# Altium integrated library Actel Axcelerator.IntLib: 162 symbols (part 26 of 43)
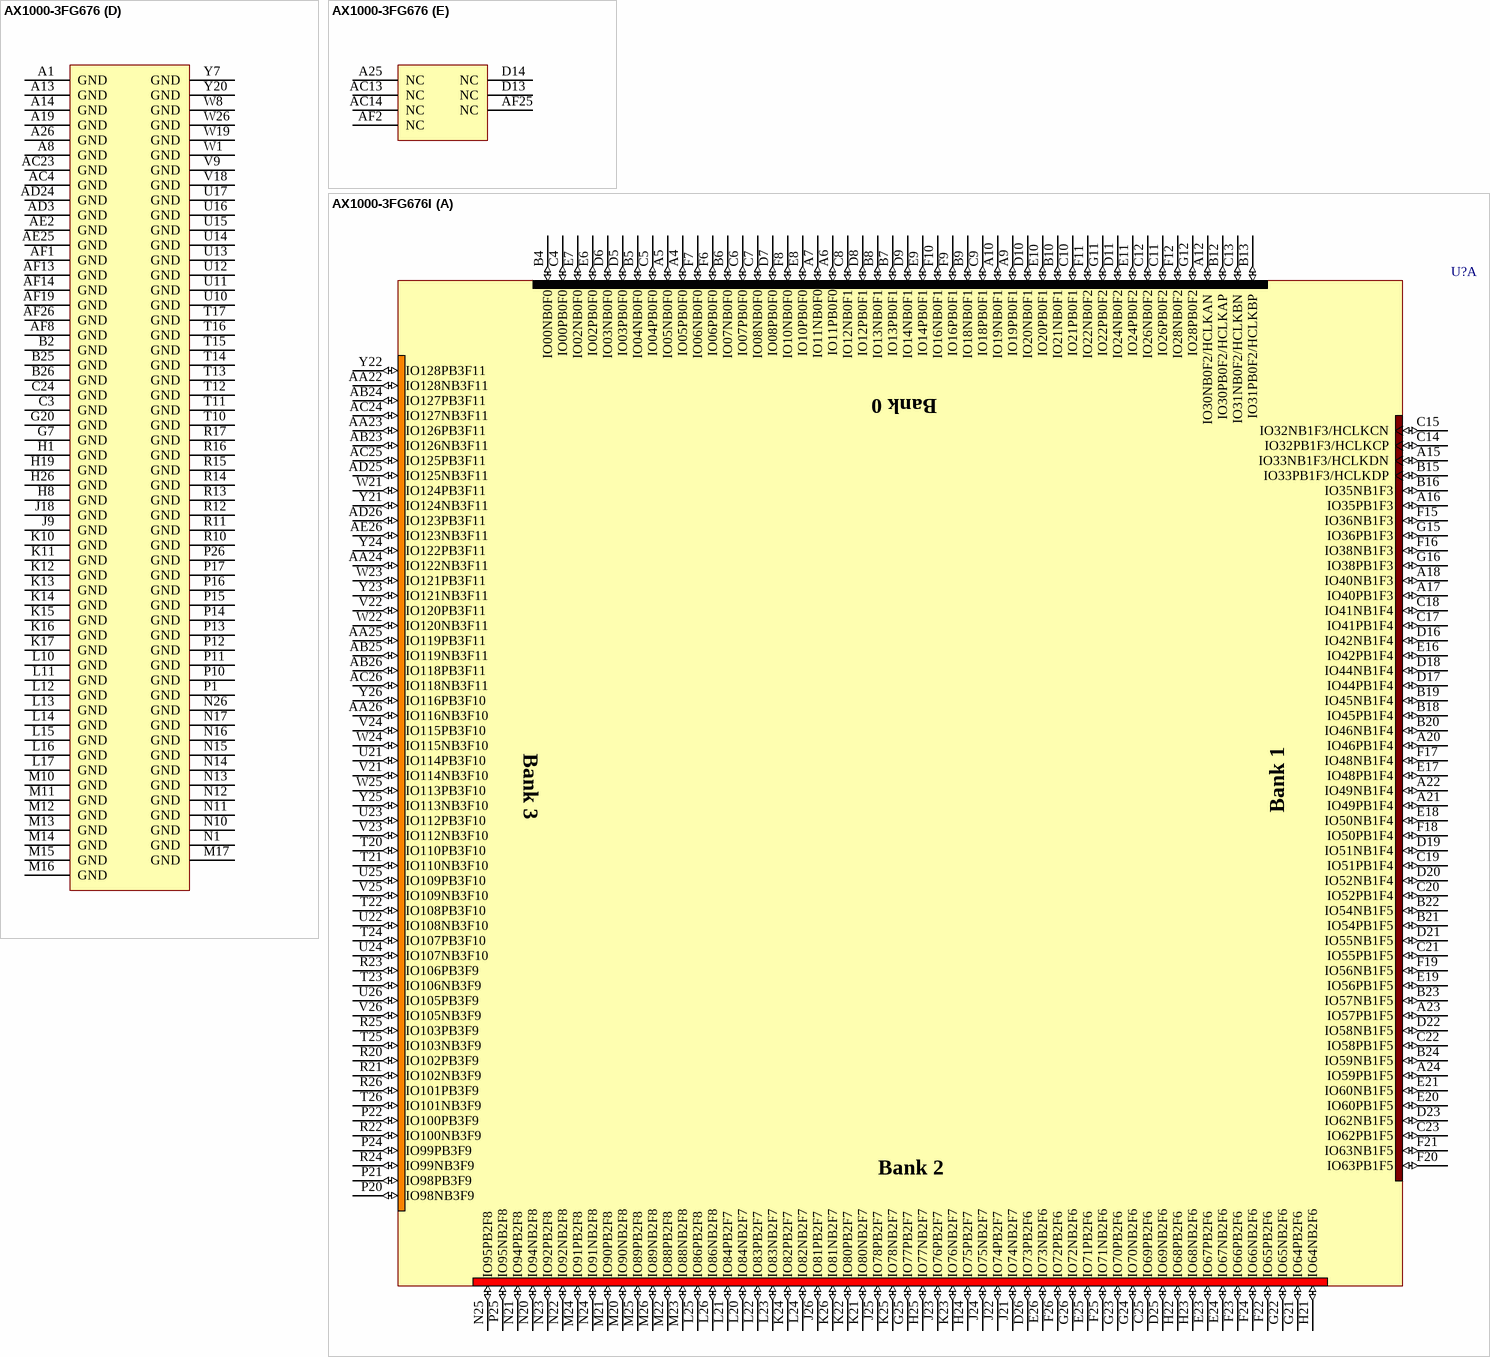
[diagram p424: symbols AX1000-3FG676 to AX1000-3FG676I]

## AX1000-3FG676
designator U?
Axcelerator AX1000 FPGA, 418 I/Os, 676-Pin FBGA, Speed Grade 3, Commercial Grade; ComponentAvailability: -3 speed grade removed in v2.3 datasheet.; Published: 21-May-2003; LatestRevisionDate: 13-Apr-2006; LatestRevisionNote: IPC-7351 Footprint Added.; DatasheetVersion: v2.4, Jan-2005; PackageVersion: ver11.2, Nov-2009; PackageReference: FG676; Publisher: Altium Limited; PackageDescription: 676-Ball Fine Pitch Plastic Ball Grid Array (FG676); Code_JEDEC: MS-034-AAL-1; Code_IPC: BGA100P26X26-676; ComponentLink1Description: Axcelerator Datasheet; ComponentLink1URL: http://www.actel.com/documents/AX_DS.pdf; ComponentLink2Description: Package Mechanical Drawings; ComponentLink2URL: http://www.actel.com/documents/PckgMechDrwngs.pdf; ComponentLink3Description: Axcelerator Documents; ComponentLink3URL: http://www.actel.com/products/axcelerator/docs.aspx; ComponentLink4Description: Actel.com Home; ComponentLink4URL: http://www.actel.com/
footprint FG676 (BGA, 676-Leads, Body 27x27mm, Pitch 1mm)
part A pins: A4 IO05PB0F0 (io), A5 IO05NB0F0 (io), A6 IO11PB0F0 (io), A7 IO11NB0F0 (io), A9 IO19PB0F1 (io), A10 IO19NB0F1 (io), A12 IO30NB0F2/HCLKAN (io), A15 IO33NB1F3/HCLKDN (io), A16 IO35PB1F3 (io), A17 IO40PB1F3 (io), A18 IO40NB1F3 (io), A20 IO46PB1F4 (io), A21 IO49PB1F4 (io), A22 IO49NB1F4 (io), A23 IO57PB1F5 (io), A24 IO59PB1F5 (io), AA22 IO128NB3F11 (io), AA23 IO126PB3F11 (io), AA24 IO122NB3F11 (io), AA25 IO119PB3F11 (io), AA26 IO116NB3F10 (io), AB23 IO126NB3F11 (io), AB24 IO127PB3F11 (io), AB25 IO119NB3F11 (io), AB26 IO118PB3F11 (io), AC24 IO127NB3F11 (io), AC25 IO125PB3F11 (io), AC26 IO118NB3F11 (io), AD25 IO125NB3F11 (io), AD26 IO123PB3F11 (io), AE26 IO123NB3F11 (io), B4 IO00NB0F0 (io), B5 IO04NB0F0 (io), B6 IO07NB0F0 (io), B7 IO13PB0F1 (io), B8 IO13NB0F1 (io), B9 IO18NB0F1 (io), B10 IO21NB0F1 (io), B12 IO30PB0F2/HCLKAP (io), B13 IO31PB0F2/HCLKBP (io), B15 IO33PB1F3/HCLKDP (io), B16 IO35NB1F3 (io), B18 IO45PB1F4 (io), B19 IO45NB1F4 (io), B20 IO46NB1F4 (io), B21 IO54PB1F5 (io), B22 IO54NB1F5 (io), B23 IO57NB1F5 (io), B24 IO59NB1F5 (io), C4 IO00PB0F0 (io), C5 IO04PB0F0 (io), C6 IO07PB0F0 (io), C7 IO08NB0F0 (io), C8 IO12NB0F1 (io), C9 IO18PB0F1 (io), C10 IO21PB0F1 (io), C11 IO26PB0F2 (io), C12 IO26NB0F2 (io), C13 IO31NB0F2/HCLKBN (io), C14 IO32PB1F3/HCLKCP (io), C15 IO32NB1F3/HCLKCN (io), C17 IO41PB1F4 (io), C18 IO41NB1F4 (io), C19 IO51PB1F4 (io), C20 IO52PB1F4 (io), C21 IO55PB1F5 (io), C22 IO58PB1F5 (io), C23 IO62PB1F5 (io), C25 IO69PB2F6 (io), D5 IO03PB0F0 (io), D6 IO03NB0F0 (io), D7 IO08PB0F0 (io), D8 IO12PB0F1 (io), D9 IO14NB0F1 (io), D10 IO20NB0F1 (io), D11 IO24NB0F2 (io), D16 IO42NB1F4 (io), D17 IO44PB1F4 (io), D18 IO44NB1F4 (io), D19 IO51NB1F4 (io), D20 IO52NB1F4 (io), D21 IO55NB1F5 (io), D22 IO58NB1F5 (io), D23 IO62NB1F5 (io), D25 IO69NB2F6 (io), D26 IO73PB2F6 (io), E6 IO02PB0F0 (io), E7 IO02NB0F0 (io), E8 IO10PB0F0 (io), E9 IO14PB0F1 (io), E10 IO20PB0F1 (io), E11 IO24PB0F2 (io), E16 IO42PB1F4 (io), E17 IO48PB1F4 (io), E18 IO50NB1F4 (io), E19 IO56PB1F5 (io), E20 IO60PB1F5 (io), E21 IO60NB1F5 (io), E23 IO67PB2F6 (io), E24 IO67NB2F6 (io), E25 IO71PB2F6 (io), E26 IO73NB2F6 (io), F6 IO06PB0F0 (io), F7 IO06NB0F0 (io), F8 IO10NB0F0 (io), F9 IO16PB0F1 (io), F10 IO16NB0F1 (io), F11 IO22NB0F2 (io), F12 IO28NB0F2 (io), F15 IO36NB1F3 (io), F16 IO38NB1F3 (io), F17 IO48NB1F4 (io), F18 IO50PB1F4 (io), F19 IO56NB1F5 (io), F20 IO63PB1F5 (io), F21 IO63NB1F5 (io), F22 IO65PB2F6 (io), F23 IO66PB2F6 (io), F24 IO66NB2F6 (io), F25 IO71NB2F6 (io), F26 IO72PB2F6 (io), G11 IO22PB0F2 (io), G12 IO28PB0F2 (io), G15 IO36PB1F3 (io), G16 IO38PB1F3 (io), G21 IO64PB2F6 (io), G22 IO65NB2F6 (io), G23 IO70PB2F6 (io), G24 IO70NB2F6 (io), G25 IO77PB2F7 (io), G26 IO72NB2F6 (io), H21 IO64NB2F6 (io), H22 IO68PB2F6 (io), H23 IO68NB2F6 (io), H24 IO75PB2F7 (io), H25 IO77NB2F7 (io), J21 IO74NB2F7 (io), J22 IO74PB2F7 (io), J23 IO76PB2F7 (io), J24 IO75NB2F7 (io), J25 IO78PB2F7 (io), J26 IO81PB2F7 (io), K21 IO80NB2F7 (io), K22 IO80PB2F7 (io), K23 IO76NB2F7 (io), K24 IO82PB2F7 (io), K25 IO78NB2F7 (io), K26 IO81NB2F7 (io), L20 IO84NB2F7 (io), L21 IO84PB2F7 (io), L22 IO83PB2F7 (io), L23 IO83NB2F7 (io), L24 IO82NB2F7 (io), L25 IO86PB2F8 (io), L26 IO86NB2F8 (io), M20 IO90NB2F8 (io), M21 IO90PB2F8 (io), M22 IO88PB2F8 (io), M23 IO88NB2F8 (io), M24 IO91PB2F8 (io), M25 IO89PB2F8 (io), M26 IO89NB2F8 (io), N20 IO94NB2F8 (io), N21 IO94PB2F8 (io), N22 IO92NB2F8 (io), N23 IO92PB2F8 (io), N24 IO91NB2F8 (io), N25 IO95PB2F8 (io), P20 IO98NB3F9 (io), P21 IO98PB3F9 (io), P22 IO100PB3F9 (io), P24 IO99PB3F9 (io), P25 IO95NB2F8 (io), R20 IO102PB3F9 (io), R21 IO102NB3F9 (io), R22 IO100NB3F9 (io), R23 IO106PB3F9 (io), R24 IO99NB3F9 (io), R25 IO103PB3F9 (io), R26 IO101PB3F9 (io), T20 IO110PB3F10 (io), T21 IO110NB3F10 (io), T22 IO108PB3F10 (io), T23 IO106NB3F9 (io), T24 IO107PB3F10 (io), T25 IO103NB3F9 (io), T26 IO101NB3F9 (io), U21 IO114PB3F10 (io), U22 IO108NB3F10 (io), U23 IO112PB3F10 (io), U24 IO107NB3F10 (io), U25 IO109PB3F10 (io), U26 IO105PB3F9 (io), V21 IO114NB3F10 (io), V22 IO120PB3F11 (io), V23 IO112NB3F10 (io), V24 IO115PB3F10 (io), V25 IO109NB3F10 (io), V26 IO105NB3F9 (io), W21 IO124PB3F11 (io), W22 IO120NB3F11 (io), W23 IO121PB3F11 (io), W24 IO115NB3F10 (io), W25 IO113PB3F10 (io), Y21 IO124NB3F11 (io), Y22 IO128PB3F11 (io), Y23 IO121NB3F11 (io), Y24 IO122PB3F11 (io), Y25 IO113NB3F10 (io), Y26 IO116PB3F10 (io)
part B pins: AA1 IO208PB6F19 (io), AA2 IO199NB6F18 (io), AA3 IO200PB6F18 (io), AA4 IO195PB6F18 (io), AA5 IO193PB6F18 (io), AA6 IO192NB5F17 (io), AA7 IO192PB5F17 (io), AA8 IO185NB5F17 (io), AA9 IO181NB5F17 (io), AA10 IO177NB5F16 (io), AA11 IO169PB5F15 (io), AA12 IO167PB5F15 (io), AA13 IO165PB5F15 (io), AA15 IO155NB4F14 (io), AA16 IO149NB4F13 (io), AA17 IO147NB4F13 (io), AA18 IO147PB4F13 (io), AA19 IO137PB4F12 (io), AA20 IO133PB4F12 (io), AA21 IO129PB4F12 (io), AB1 IO202NB6F18 (io), AB2 IO199PB6F18 (io), AB3 IO194NB6F18 (io), AB6 IO189NB5F17 (io), AB7 IO189PB5F17 (io), AB8 IO185PB5F17 (io), AB9 IO181PB5F17 (io), AB10 IO177PB5F16 (io), AB11 IO169NB5F15 (io), AB12 IO163PB5F15 (io), AB15 IO157PB4F14 (io), AB16 IO151PB4F13 (io), AB17 IO143NB4F13 (io), AB18 IO143PB4F13 (io), AB19 IO137NB4F12 (io), AB20 IO133NB4F12 (io), AB21 IO129NB4F12 (io), AC1 IO202PB6F18 (io), AC2 IO196NB6F18 (io), AC3 IO194PB6F18 (io), AC5 IO187NB5F17 (io), AC6 IO187PB5F17 (io), AC7 IO180NB5F16 (io), AC8 IO180PB5F16 (io), AC9 IO175NB5F16 (io), AC10 IO173NB5F16 (io), AC11 IO173PB5F16 (io), AC12 IO163NB5F15 (io), AC15 IO157NB4F14 (io), AC16 IO151NB4F13 (io), AC17 IO145NB4F13 (io), AC18 IO145PB4F13 (io), AC19 IO139NB4F13 (io), AC20 IO139PB4F13 (io), AC21 IO134NB4F12 (io), AC22 IO134PB4F12 (io), AD1 IO198NB6F18 (io), AD2 IO196PB6F18 (io), AD4 IO188NB5F17 (io), AD5 IO188PB5F17 (io), AD6 IO183NB5F17 (io), AD7 IO179NB5F16 (io), AD8 IO179PB5F16 (io), AD9 IO175PB5F16 (io), AD18 IO146NB4F13 (io), AD19 IO146PB4F13 (io), AD20 IO141NB4F13 (io), AD21 IO141PB4F13 (io), AD22 IO131NB4F12 (io), AD23 IO131PB4F12 (io), AE1 IO198PB6F18 (io), AE3 IO191NB5F17 (io), AE4 IO190PB5F17 (io), AE5 IO184NB5F17 (io), AE6 IO183PB5F17 (io), AE7 IO174NB5F16 (io), AE8 IO174PB5F16 (io), AE9 IO171NB5F16 (io), AE10 IO171PB5F16 (io), AE11 IO162NB5F15/CLKHN (io), AE12 IO161NB5F15/CLKGN (io), AE13 IO161PB5F15/CLKGP (io), AE14 IO160NB4F14/CLKFN (io), AE15 IO160PB4F14/CLKFP (io), AE16 IO159NB4F14/CLKEN (io), AE17 IO153NB4F14 (io), AE18 IO153PB4F14 (io), AE19 IO144NB4F13 (io), AE20 IO144PB4F13 (io), AE21 IO140NB4F13 (io), AE22 IO140PB4F13 (io), AE23 IO132NB4F12 (io), AE24 IO132PB4F12 (io), AF3 IO191PB5F17 (io), AF4 IO190NB5F17 (io), AF5 IO184PB5F17 (io), AF6 IO176NB5F16 (io), AF7 IO176PB5F16 (io), AF9 IO168NB5F15 (io), AF10 IO168PB5F15 (io), AF11 IO162PB5F15/CLKHP (io), AF16 IO159PB4F14/CLKEP (io), AF17 IO154NB4F14 (io), AF18 IO154PB4F14 (io), AF20 IO148NB4F13 (io), AF21 IO148PB4F13 (io), AF22 IO135NB4F12 (io), AF23 IO135PB4F12 (io), D1 IO254PB7F23 (io), D2 IO254NB7F23 (io), D3 IO256NB7F23 (io), E1 IO248NB7F23 (io), E2 IO249NB7F23 (io), E3 IO256PB7F23 (io), E4 IO255NB7F23 (io), F1 IO248PB7F23 (io), F2 IO249PB7F23 (io), F3 IO251NB7F23 (io), F4 IO255PB7F23 (io), F5 IO257NB7F23 (io), G1 IO245PB7F22 (io), G2 IO245NB7F22 (io), G3 IO251PB7F23 (io), G4 IO250NB7F23 (io), G5 IO257PB7F23 (io), H2 IO242NB7F22 (io), H3 IO244NB7F22 (io), H4 IO250PB7F23 (io), H5 IO253PB7F23 (io), H6 IO253NB7F23 (io), J1 IO240NB7F22 (io), J2 IO242PB7F22 (io), J3 IO244PB7F22 (io), J4 IO243NB7F22 (io), J5 IO247PB7F23 (io), J6 IO247NB7F23 (io), K1 IO240PB7F22 (io), K2 IO235NB7F21 (io), K3 IO238NB7F22 (io), K4 IO243PB7F22 (io), K5 IO241PB7F22 (io), K6 IO241NB7F22 (io), L1 IO232NB7F21 (io), L2 IO235PB7F21 (io), L3 IO238PB7F22 (io), L4 IO236PB7F22 (io), L5 IO236NB7F22 (io), L6 IO237NB7F22 (io), L7 IO237PB7F22 (io), M1 IO232PB7F21 (io), M2 IO233NB7F21 (io), M3 IO233PB7F21 (io), M4 IO231PB7F21 (io), M5 IO231NB7F21 (io), M6 IO229PB7F21 (io), M7 IO229NB7F21 (io), N2 IO226NB7F21 (io), N3 IO226PB7F21 (io), N4 IO225PB7F21 (io), N5 IO225NB7F21 (io), N6 IO227NB7F21 (io), N7 IO227PB7F21 (io), P3 IO219NB6F20 (io), P4 IO223PB6F20 (io), P5 IO223NB6F20 (io), P6 IO221NB6F20 (io), P7 IO221PB6F20 (io), R1 IO220NB6F20 (io), R2 IO218NB6F20 (io), R3 IO219PB6F20 (io), R4 IO217PB6F20 (io), R5 IO217NB6F20 (io), R6 IO215NB6F20 (io), R7 IO215PB6F20 (io), T1 IO220PB6F20 (io), T2 IO218PB6F20 (io), T3 IO211NB6F19 (io), T4 IO213PB6F19 (io), T5 IO213NB6F19 (io), T6 IO209NB6F19 (io), T7 IO209PB6F19 (io), U1 IO214NB6F20 (io), U2 IO214PB6F20 (io), U3 IO211PB6F19 (io), U4 IO207NB6F19 (io), U5 IO207PB6F19 (io), U6 IO205NB6F19 (io), V1 IO212NB6F19 (io), V2 IO212PB6F19 (io), V3 IO204NB6F19 (io), V4 IO203NB6F19 (io), V5 IO201NB6F18 (io), V6 IO205PB6F19 (io), W2 IO206NB6F19 (io), W3 IO204PB6F19 (io), W4 IO203PB6F19 (io), W5 IO201PB6F18 (io), W6 IO197NB6F18 (io), Y1 IO208NB6F19 (io), Y2 IO206PB6F19 (io), Y3 IO200NB6F18 (io), Y4 IO195NB6F18 (io), Y5 IO193NB6F18 (io), Y6 IO197PB6F18 (io), Y11 IO167NB5F15 (io), Y12 IO165NB5F15 (io), Y15 IO155PB4F14 (io), Y16 IO149PB4F13 (io)
part C pins: A2 ~{TRST} (in), A3 VCCDA (power), A11 VCCDA (power), AA14 VCCPLF (power), AB4 VCCA (power), AB5 VCCDA (power), AB13 VCCPLH (power), AB14 VCOMPLF (power), AB22 VCCDA (power), AD10 VCCDA (power), AD11 VCCDA (power), AD12 VCOMPLG (power), AD13 VCCDA (power), AD14 PRD (out), AD15 VCOMPLE (power), AD16 VCCDA (power), AD17 VCCDA (power), AF12 VCCPLG (power), AF15 VCCPLE (power), AF24 VCCA (power), B1 VCCDA (power), B3 TDI (in), B11 VCCDA (power), B14 PRB (out), B17 VCCDA (power), C1 VCCA (power), C2 LP (in), C16 VCCDA (power), C26 VCCA (power), D4 TMS (in), D12 VCOMPLA (power), D15 VCOMPLC (power), D24 VCCDA (power), E5 TCK (in), E12 VCCPLA (power), E13 PRA (out), E14 VCCDA (power), E15 VCCPLC (power), E22 VPUMP (power), F13 VCCPLB (power), F14 VCOMPLD (power), G6 TDO (hiz), G8 VCCIB0 (power), G9 VCCIB0 (power), G10 VCCIB0 (power), G13 VCOMPLB (power), G14 VCCPLD (power), G17 VCCIB1 (power), G18 VCCIB1 (power), G19 VCCIB1 (power), H7 VCCIB7 (power), H9 VCCIB0 (power), H10 VCCIB0 (power), H11 VCCIB0 (power), H12 VCCIB0 (power), H13 VCCIB0 (power), H14 VCCIB1 (power), H15 VCCIB1 (power), H16 VCCIB1 (power), H17 VCCIB1 (power), H18 VCCIB1 (power), H20 VCCIB2 (power), J7 VCCIB7 (power), J8 VCCIB7 (power), J10 VCCA (power), J11 VCCA (power), J12 VCCA (power), J13 VCCA (power), J14 VCCA (power), J15 VCCA (power), J16 VCCA (power), J17 VCCA (power), J19 VCCIB2 (power), J20 VCCIB2 (power), K7 VCCIB7 (power), K8 VCCIB7 (power), K9 VCCA (power), K18 VCCA (power), K19 VCCIB2 (power), K20 VCCIB2 (power), L8 VCCIB7 (power), L9 VCCA (power), L18 VCCA (power), L19 VCCIB2 (power), M8 VCCIB7 (power), M9 VCCA (power), M18 VCCA (power), M19 VCCIB2 (power), N8 VCCIB7 (power), N9 VCCA (power), N18 VCCA (power), N19 VCCIB2 (power), P2 VCCDA (power), P8 VCCIB6 (power), P9 VCCA (power), P18 VCCA (power), P19 VCCIB3 (power), P23 VCCDA (power), R8 VCCIB6 (power), R9 VCCA (power), R18 VCCA (power), R19 VCCIB3 (power), T8 VCCIB6 (power), T9 VCCA (power), T18 VCCA (power), T19 VCCIB3 (power), U7 VCCIB6 (power), U8 VCCIB6 (power), U9 VCCA (power), U18 VCCA (power), U19 VCCIB3 (power), U20 VCCIB3 (power), V7 VCCIB6 (power), V8 VCCIB6 (power), V10 VCCA (power), V11 VCCA (power), V12 VCCA (power), V13 VCCA (power), V14 VCCA (power), V15 VCCA (power), V16 VCCA (power), V17 VCCA (power), V19 VCCIB3 (power), V20 VCCIB3 (power), W7 VCCIB6 (power), W9 VCCIB5 (power), W10 VCCIB5 (power), W11 VCCIB5 (power), W12 VCCIB5 (power), W13 VCCIB5 (power), W14 VCCIB4 (power), W15 VCCIB4 (power), W16 VCCIB4 (power), W17 VCCIB4 (power), W18 VCCIB4 (power), W20 VCCIB3 (power), Y8 VCCIB5 (power), Y9 VCCIB5 (power), Y10 VCCIB5 (power), Y13 VCOMPLH (power), Y14 PRC (out), Y17 VCCIB4 (power), Y18 VCCIB4 (power), Y19 VCCIB4 (power)
part D pins: A1 GND (power), A8 GND (power), A13 GND (power), A14 GND (power), A19 GND (power), A26 GND (power), AC4 GND (power), AC23 GND (power), AD3 GND (power), AD24 GND (power), AE2 GND (power), AE25 GND (power), AF1 GND (power), AF8 GND (power), AF13 GND (power), AF14 GND (power), AF19 GND (power), AF26 GND (power), B2 GND (power), B25 GND (power), B26 GND (power), C3 GND (power), C24 GND (power), G7 GND (power), G20 GND (power), H1 GND (power), H8 GND (power), H19 GND (power), H26 GND (power), J9 GND (power), J18 GND (power), K10 GND (power), K11 GND (power), K12 GND (power), K13 GND (power), K14 GND (power), K15 GND (power), K16 GND (power), K17 GND (power), L10 GND (power), L11 GND (power), L12 GND (power), L13 GND (power), L14 GND (power), L15 GND (power), L16 GND (power), L17 GND (power), M10 GND (power), M11 GND (power), M12 GND (power), M13 GND (power), M14 GND (power), M15 GND (power), M16 GND (power), M17 GND (power), N1 GND (power), N10 GND (power), N11 GND (power), N12 GND (power), N13 GND (power), N14 GND (power), N15 GND (power), N16 GND (power), N17 GND (power), N26 GND (power), P1 GND (power), P10 GND (power), P11 GND (power), P12 GND (power), P13 GND (power), P14 GND (power), P15 GND (power), P16 GND (power), P17 GND (power), P26 GND (power), R10 GND (power), R11 GND (power), R12 GND (power), R13 GND (power), R14 GND (power), R15 GND (power), R16 GND (power), R17 GND (power), T10 GND (power), T11 GND (power), T12 GND (power), T13 GND (power), T14 GND (power), T15 GND (power), T16 GND (power), T17 GND (power), U10 GND (power), U11 GND (power), U12 GND (power), U13 GND (power), U14 GND (power), U15 GND (power), U16 GND (power), U17 GND (power), V9 GND (power), V18 GND (power), W1 GND (power), W8 GND (power), W19 GND (power), W26 GND (power), Y7 GND (power), Y20 GND (power)
part E pins: A25 NC, AC13 NC, AC14 NC, AF2 NC, AF25 NC, D13 NC, D14 NC
part A text: Bank 0; Bank 3; Bank 1; Bank 2
part B text: Bank 4; Bank 7; Bank 5; Bank 6

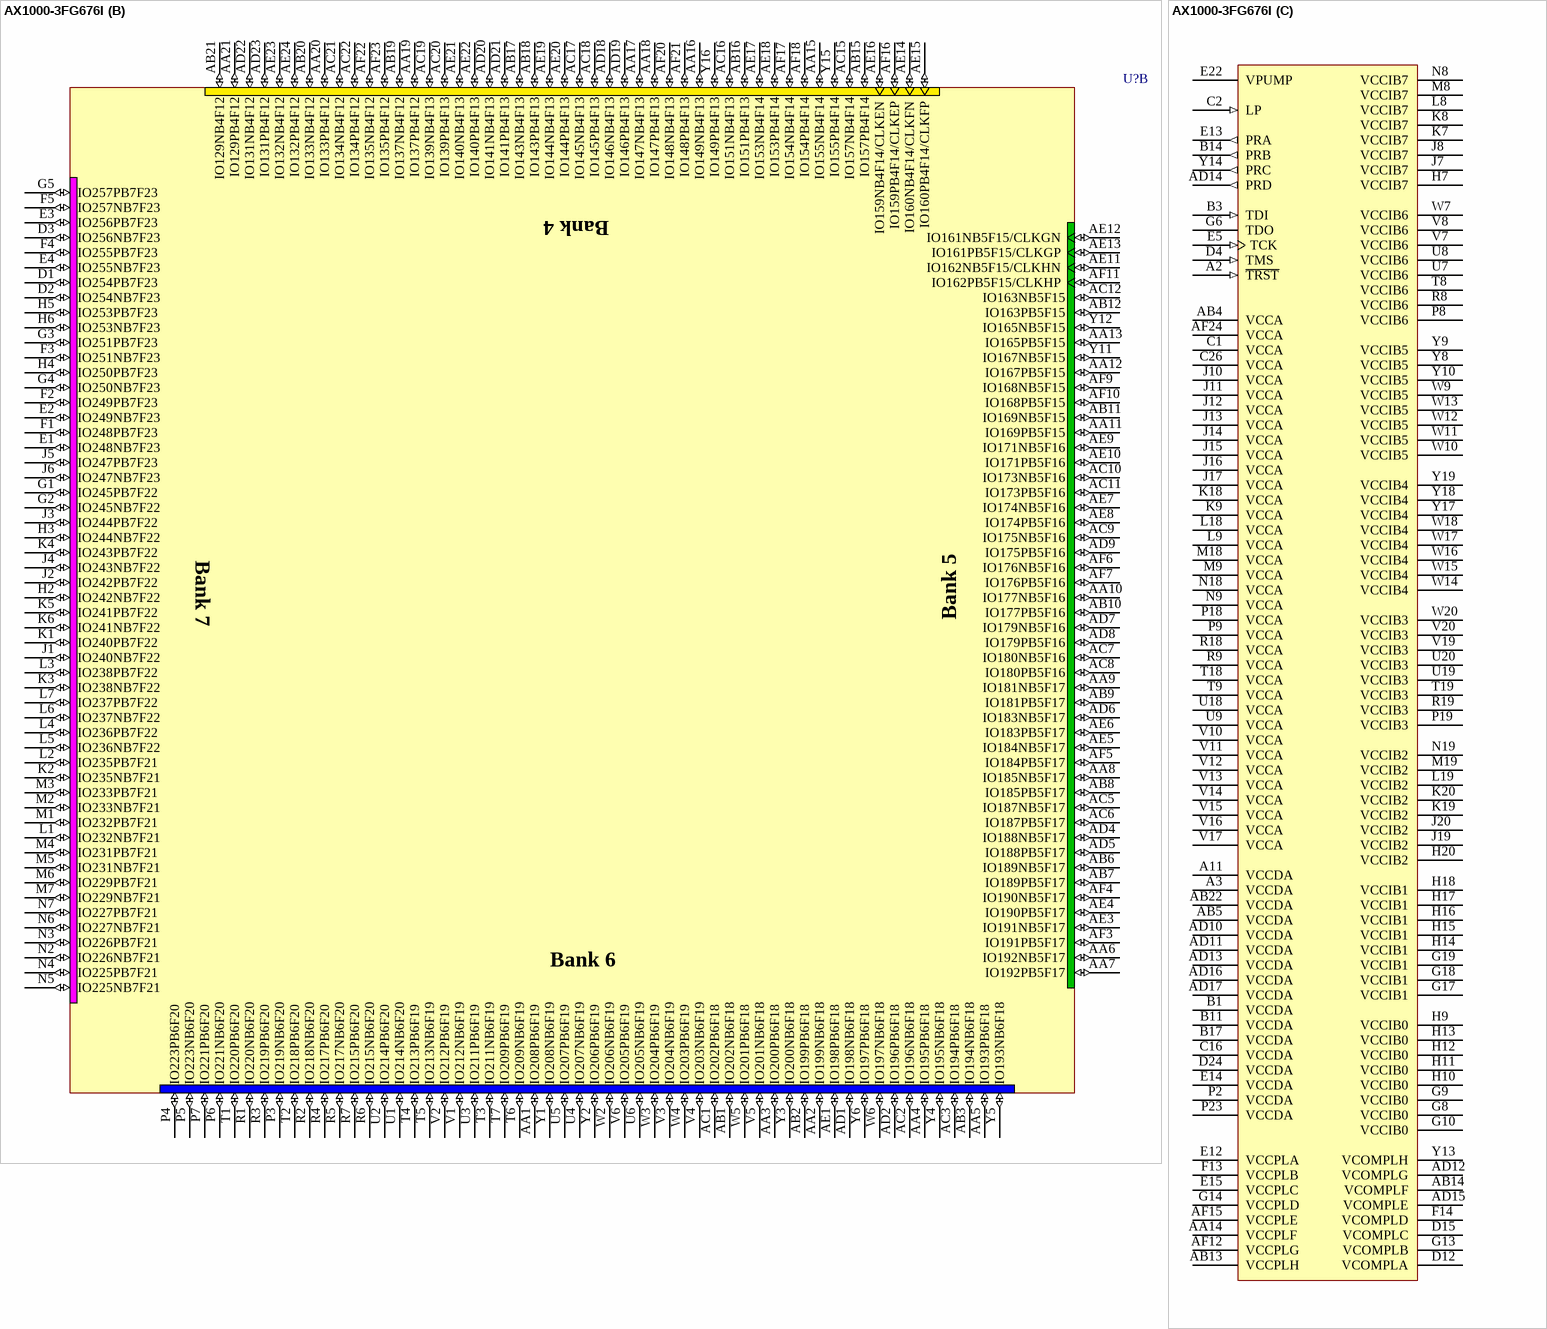
[diagram p293: symbol AX1000-3FG676I]

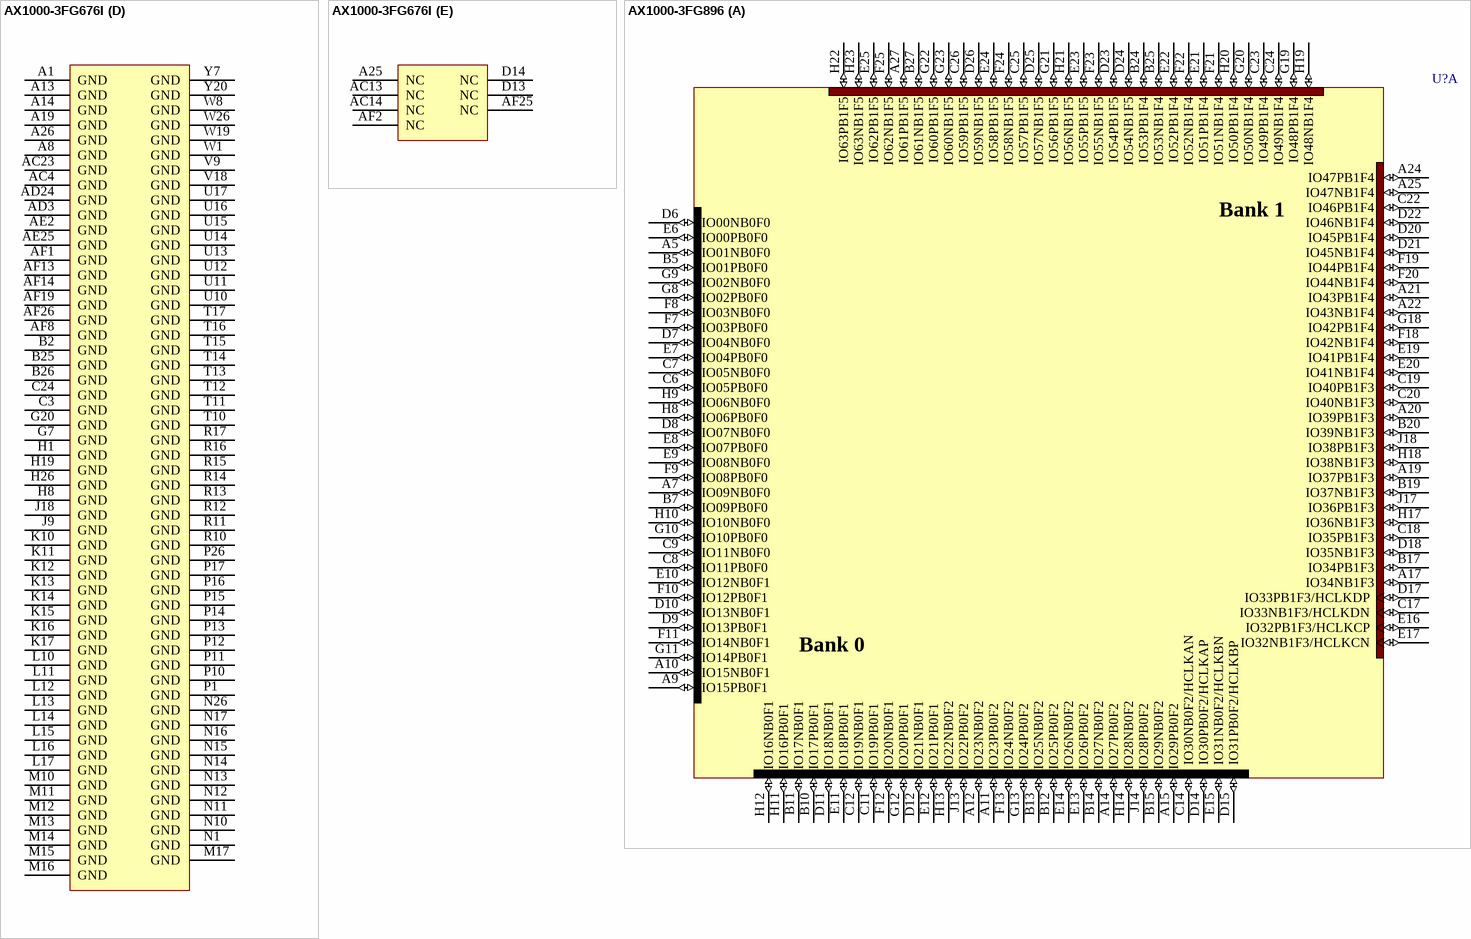
[diagram p294: symbols AX1000-3FG676I to AX1000-3FG896]

## AX1000-3FG676I
designator U?
Axcelerator AX1000 FPGA, 418 I/Os, 676-Pin FBGA, Speed Grade 3, Industrial Grade; ComponentAvailability: -3 speed grade removed in v2.3 datasheet.; Published: 21-May-2003; LatestRevisionDate: 13-Apr-2006; LatestRevisionNote: IPC-7351 Footprint Added.; DatasheetVersion: v2.4, Jan-2005; PackageVersion: ver11.2, Nov-2009; PackageReference: FG676; Publisher: Altium Limited; PackageDescription: 676-Ball Fine Pitch Plastic Ball Grid Array (FG676); Code_JEDEC: MS-034-AAL-1; Code_IPC: BGA100P26X26-676; ComponentLink1Description: Axcelerator Datasheet; ComponentLink1URL: http://www.actel.com/documents/AX_DS.pdf; ComponentLink2Description: Package Mechanical Drawings; ComponentLink2URL: http://www.actel.com/documents/PckgMechDrwngs.pdf; ComponentLink3Description: Axcelerator Documents; ComponentLink3URL: http://www.actel.com/products/axcelerator/docs.aspx; ComponentLink4Description: Actel.com Home; ComponentLink4URL: http://www.actel.com/
footprint FG676 (BGA, 676-Leads, Body 27x27mm, Pitch 1mm)
part A pins: A4 IO05PB0F0 (io), A5 IO05NB0F0 (io), A6 IO11PB0F0 (io), A7 IO11NB0F0 (io), A9 IO19PB0F1 (io), A10 IO19NB0F1 (io), A12 IO30NB0F2/HCLKAN (io), A15 IO33NB1F3/HCLKDN (io), A16 IO35PB1F3 (io), A17 IO40PB1F3 (io), A18 IO40NB1F3 (io), A20 IO46PB1F4 (io), A21 IO49PB1F4 (io), A22 IO49NB1F4 (io), A23 IO57PB1F5 (io), A24 IO59PB1F5 (io), AA22 IO128NB3F11 (io), AA23 IO126PB3F11 (io), AA24 IO122NB3F11 (io), AA25 IO119PB3F11 (io), AA26 IO116NB3F10 (io), AB23 IO126NB3F11 (io), AB24 IO127PB3F11 (io), AB25 IO119NB3F11 (io), AB26 IO118PB3F11 (io), AC24 IO127NB3F11 (io), AC25 IO125PB3F11 (io), AC26 IO118NB3F11 (io), AD25 IO125NB3F11 (io), AD26 IO123PB3F11 (io), AE26 IO123NB3F11 (io), B4 IO00NB0F0 (io), B5 IO04NB0F0 (io), B6 IO07NB0F0 (io), B7 IO13PB0F1 (io), B8 IO13NB0F1 (io), B9 IO18NB0F1 (io), B10 IO21NB0F1 (io), B12 IO30PB0F2/HCLKAP (io), B13 IO31PB0F2/HCLKBP (io), B15 IO33PB1F3/HCLKDP (io), B16 IO35NB1F3 (io), B18 IO45PB1F4 (io), B19 IO45NB1F4 (io), B20 IO46NB1F4 (io), B21 IO54PB1F5 (io), B22 IO54NB1F5 (io), B23 IO57NB1F5 (io), B24 IO59NB1F5 (io), C4 IO00PB0F0 (io), C5 IO04PB0F0 (io), C6 IO07PB0F0 (io), C7 IO08NB0F0 (io), C8 IO12NB0F1 (io), C9 IO18PB0F1 (io), C10 IO21PB0F1 (io), C11 IO26PB0F2 (io), C12 IO26NB0F2 (io), C13 IO31NB0F2/HCLKBN (io), C14 IO32PB1F3/HCLKCP (io), C15 IO32NB1F3/HCLKCN (io), C17 IO41PB1F4 (io), C18 IO41NB1F4 (io), C19 IO51PB1F4 (io), C20 IO52PB1F4 (io), C21 IO55PB1F5 (io), C22 IO58PB1F5 (io), C23 IO62PB1F5 (io), C25 IO69PB2F6 (io), D5 IO03PB0F0 (io), D6 IO03NB0F0 (io), D7 IO08PB0F0 (io), D8 IO12PB0F1 (io), D9 IO14NB0F1 (io), D10 IO20NB0F1 (io), D11 IO24NB0F2 (io), D16 IO42NB1F4 (io), D17 IO44PB1F4 (io), D18 IO44NB1F4 (io), D19 IO51NB1F4 (io), D20 IO52NB1F4 (io), D21 IO55NB1F5 (io), D22 IO58NB1F5 (io), D23 IO62NB1F5 (io), D25 IO69NB2F6 (io), D26 IO73PB2F6 (io), E6 IO02PB0F0 (io), E7 IO02NB0F0 (io), E8 IO10PB0F0 (io), E9 IO14PB0F1 (io), E10 IO20PB0F1 (io), E11 IO24PB0F2 (io), E16 IO42PB1F4 (io), E17 IO48PB1F4 (io), E18 IO50NB1F4 (io), E19 IO56PB1F5 (io), E20 IO60PB1F5 (io), E21 IO60NB1F5 (io), E23 IO67PB2F6 (io), E24 IO67NB2F6 (io), E25 IO71PB2F6 (io), E26 IO73NB2F6 (io), F6 IO06PB0F0 (io), F7 IO06NB0F0 (io), F8 IO10NB0F0 (io), F9 IO16PB0F1 (io), F10 IO16NB0F1 (io), F11 IO22NB0F2 (io), F12 IO28NB0F2 (io), F15 IO36NB1F3 (io), F16 IO38NB1F3 (io), F17 IO48NB1F4 (io), F18 IO50PB1F4 (io), F19 IO56NB1F5 (io), F20 IO63PB1F5 (io), F21 IO63NB1F5 (io), F22 IO65PB2F6 (io), F23 IO66PB2F6 (io), F24 IO66NB2F6 (io), F25 IO71NB2F6 (io), F26 IO72PB2F6 (io), G11 IO22PB0F2 (io), G12 IO28PB0F2 (io), G15 IO36PB1F3 (io), G16 IO38PB1F3 (io), G21 IO64PB2F6 (io), G22 IO65NB2F6 (io), G23 IO70PB2F6 (io), G24 IO70NB2F6 (io), G25 IO77PB2F7 (io), G26 IO72NB2F6 (io), H21 IO64NB2F6 (io), H22 IO68PB2F6 (io), H23 IO68NB2F6 (io), H24 IO75PB2F7 (io), H25 IO77NB2F7 (io), J21 IO74NB2F7 (io), J22 IO74PB2F7 (io), J23 IO76PB2F7 (io), J24 IO75NB2F7 (io), J25 IO78PB2F7 (io), J26 IO81PB2F7 (io), K21 IO80NB2F7 (io), K22 IO80PB2F7 (io), K23 IO76NB2F7 (io), K24 IO82PB2F7 (io), K25 IO78NB2F7 (io), K26 IO81NB2F7 (io), L20 IO84NB2F7 (io), L21 IO84PB2F7 (io), L22 IO83PB2F7 (io), L23 IO83NB2F7 (io), L24 IO82NB2F7 (io), L25 IO86PB2F8 (io), L26 IO86NB2F8 (io), M20 IO90NB2F8 (io), M21 IO90PB2F8 (io), M22 IO88PB2F8 (io), M23 IO88NB2F8 (io), M24 IO91PB2F8 (io), M25 IO89PB2F8 (io), M26 IO89NB2F8 (io), N20 IO94NB2F8 (io), N21 IO94PB2F8 (io), N22 IO92NB2F8 (io), N23 IO92PB2F8 (io), N24 IO91NB2F8 (io), N25 IO95PB2F8 (io), P20 IO98NB3F9 (io), P21 IO98PB3F9 (io), P22 IO100PB3F9 (io), P24 IO99PB3F9 (io), P25 IO95NB2F8 (io), R20 IO102PB3F9 (io), R21 IO102NB3F9 (io), R22 IO100NB3F9 (io), R23 IO106PB3F9 (io), R24 IO99NB3F9 (io), R25 IO103PB3F9 (io), R26 IO101PB3F9 (io), T20 IO110PB3F10 (io), T21 IO110NB3F10 (io), T22 IO108PB3F10 (io), T23 IO106NB3F9 (io), T24 IO107PB3F10 (io), T25 IO103NB3F9 (io), T26 IO101NB3F9 (io), U21 IO114PB3F10 (io), U22 IO108NB3F10 (io), U23 IO112PB3F10 (io), U24 IO107NB3F10 (io), U25 IO109PB3F10 (io), U26 IO105PB3F9 (io), V21 IO114NB3F10 (io), V22 IO120PB3F11 (io), V23 IO112NB3F10 (io), V24 IO115PB3F10 (io), V25 IO109NB3F10 (io), V26 IO105NB3F9 (io), W21 IO124PB3F11 (io), W22 IO120NB3F11 (io), W23 IO121PB3F11 (io), W24 IO115NB3F10 (io), W25 IO113PB3F10 (io), Y21 IO124NB3F11 (io), Y22 IO128PB3F11 (io), Y23 IO121NB3F11 (io), Y24 IO122PB3F11 (io), Y25 IO113NB3F10 (io), Y26 IO116PB3F10 (io)
part B pins: AA1 IO208PB6F19 (io), AA2 IO199NB6F18 (io), AA3 IO200PB6F18 (io), AA4 IO195PB6F18 (io), AA5 IO193PB6F18 (io), AA6 IO192NB5F17 (io), AA7 IO192PB5F17 (io), AA8 IO185NB5F17 (io), AA9 IO181NB5F17 (io), AA10 IO177NB5F16 (io), AA11 IO169PB5F15 (io), AA12 IO167PB5F15 (io), AA13 IO165PB5F15 (io), AA15 IO155NB4F14 (io), AA16 IO149NB4F13 (io), AA17 IO147NB4F13 (io), AA18 IO147PB4F13 (io), AA19 IO137PB4F12 (io), AA20 IO133PB4F12 (io), AA21 IO129PB4F12 (io), AB1 IO202NB6F18 (io), AB2 IO199PB6F18 (io), AB3 IO194NB6F18 (io), AB6 IO189NB5F17 (io), AB7 IO189PB5F17 (io), AB8 IO185PB5F17 (io), AB9 IO181PB5F17 (io), AB10 IO177PB5F16 (io), AB11 IO169NB5F15 (io), AB12 IO163PB5F15 (io), AB15 IO157PB4F14 (io), AB16 IO151PB4F13 (io), AB17 IO143NB4F13 (io), AB18 IO143PB4F13 (io), AB19 IO137NB4F12 (io), AB20 IO133NB4F12 (io), AB21 IO129NB4F12 (io), AC1 IO202PB6F18 (io), AC2 IO196NB6F18 (io), AC3 IO194PB6F18 (io), AC5 IO187NB5F17 (io), AC6 IO187PB5F17 (io), AC7 IO180NB5F16 (io), AC8 IO180PB5F16 (io), AC9 IO175NB5F16 (io), AC10 IO173NB5F16 (io), AC11 IO173PB5F16 (io), AC12 IO163NB5F15 (io), AC15 IO157NB4F14 (io), AC16 IO151NB4F13 (io), AC17 IO145NB4F13 (io), AC18 IO145PB4F13 (io), AC19 IO139NB4F13 (io), AC20 IO139PB4F13 (io), AC21 IO134NB4F12 (io), AC22 IO134PB4F12 (io), AD1 IO198NB6F18 (io), AD2 IO196PB6F18 (io), AD4 IO188NB5F17 (io), AD5 IO188PB5F17 (io), AD6 IO183NB5F17 (io), AD7 IO179NB5F16 (io), AD8 IO179PB5F16 (io), AD9 IO175PB5F16 (io), AD18 IO146NB4F13 (io), AD19 IO146PB4F13 (io), AD20 IO141NB4F13 (io), AD21 IO141PB4F13 (io), AD22 IO131NB4F12 (io), AD23 IO131PB4F12 (io), AE1 IO198PB6F18 (io), AE3 IO191NB5F17 (io), AE4 IO190PB5F17 (io), AE5 IO184NB5F17 (io), AE6 IO183PB5F17 (io), AE7 IO174NB5F16 (io), AE8 IO174PB5F16 (io), AE9 IO171NB5F16 (io), AE10 IO171PB5F16 (io), AE11 IO162NB5F15/CLKHN (io), AE12 IO161NB5F15/CLKGN (io), AE13 IO161PB5F15/CLKGP (io), AE14 IO160NB4F14/CLKFN (io), AE15 IO160PB4F14/CLKFP (io), AE16 IO159NB4F14/CLKEN (io), AE17 IO153NB4F14 (io), AE18 IO153PB4F14 (io), AE19 IO144NB4F13 (io), AE20 IO144PB4F13 (io), AE21 IO140NB4F13 (io), AE22 IO140PB4F13 (io), AE23 IO132NB4F12 (io), AE24 IO132PB4F12 (io), AF3 IO191PB5F17 (io), AF4 IO190NB5F17 (io), AF5 IO184PB5F17 (io), AF6 IO176NB5F16 (io), AF7 IO176PB5F16 (io), AF9 IO168NB5F15 (io), AF10 IO168PB5F15 (io), AF11 IO162PB5F15/CLKHP (io), AF16 IO159PB4F14/CLKEP (io), AF17 IO154NB4F14 (io), AF18 IO154PB4F14 (io), AF20 IO148NB4F13 (io), AF21 IO148PB4F13 (io), AF22 IO135NB4F12 (io), AF23 IO135PB4F12 (io), D1 IO254PB7F23 (io), D2 IO254NB7F23 (io), D3 IO256NB7F23 (io), E1 IO248NB7F23 (io), E2 IO249NB7F23 (io), E3 IO256PB7F23 (io), E4 IO255NB7F23 (io), F1 IO248PB7F23 (io), F2 IO249PB7F23 (io), F3 IO251NB7F23 (io), F4 IO255PB7F23 (io), F5 IO257NB7F23 (io), G1 IO245PB7F22 (io), G2 IO245NB7F22 (io), G3 IO251PB7F23 (io), G4 IO250NB7F23 (io), G5 IO257PB7F23 (io), H2 IO242NB7F22 (io), H3 IO244NB7F22 (io), H4 IO250PB7F23 (io), H5 IO253PB7F23 (io), H6 IO253NB7F23 (io), J1 IO240NB7F22 (io), J2 IO242PB7F22 (io), J3 IO244PB7F22 (io), J4 IO243NB7F22 (io), J5 IO247PB7F23 (io), J6 IO247NB7F23 (io), K1 IO240PB7F22 (io), K2 IO235NB7F21 (io), K3 IO238NB7F22 (io), K4 IO243PB7F22 (io), K5 IO241PB7F22 (io), K6 IO241NB7F22 (io), L1 IO232NB7F21 (io), L2 IO235PB7F21 (io), L3 IO238PB7F22 (io), L4 IO236PB7F22 (io), L5 IO236NB7F22 (io), L6 IO237NB7F22 (io), L7 IO237PB7F22 (io), M1 IO232PB7F21 (io), M2 IO233NB7F21 (io), M3 IO233PB7F21 (io), M4 IO231PB7F21 (io), M5 IO231NB7F21 (io), M6 IO229PB7F21 (io), M7 IO229NB7F21 (io), N2 IO226NB7F21 (io), N3 IO226PB7F21 (io), N4 IO225PB7F21 (io), N5 IO225NB7F21 (io), N6 IO227NB7F21 (io), N7 IO227PB7F21 (io), P3 IO219NB6F20 (io), P4 IO223PB6F20 (io), P5 IO223NB6F20 (io), P6 IO221NB6F20 (io), P7 IO221PB6F20 (io), R1 IO220NB6F20 (io), R2 IO218NB6F20 (io), R3 IO219PB6F20 (io), R4 IO217PB6F20 (io), R5 IO217NB6F20 (io), R6 IO215NB6F20 (io), R7 IO215PB6F20 (io), T1 IO220PB6F20 (io), T2 IO218PB6F20 (io), T3 IO211NB6F19 (io), T4 IO213PB6F19 (io), T5 IO213NB6F19 (io), T6 IO209NB6F19 (io), T7 IO209PB6F19 (io), U1 IO214NB6F20 (io), U2 IO214PB6F20 (io), U3 IO211PB6F19 (io), U4 IO207NB6F19 (io), U5 IO207PB6F19 (io), U6 IO205NB6F19 (io), V1 IO212NB6F19 (io), V2 IO212PB6F19 (io), V3 IO204NB6F19 (io), V4 IO203NB6F19 (io), V5 IO201NB6F18 (io), V6 IO205PB6F19 (io), W2 IO206NB6F19 (io), W3 IO204PB6F19 (io), W4 IO203PB6F19 (io), W5 IO201PB6F18 (io), W6 IO197NB6F18 (io), Y1 IO208NB6F19 (io), Y2 IO206PB6F19 (io), Y3 IO200NB6F18 (io), Y4 IO195NB6F18 (io), Y5 IO193NB6F18 (io), Y6 IO197PB6F18 (io), Y11 IO167NB5F15 (io), Y12 IO165NB5F15 (io), Y15 IO155PB4F14 (io), Y16 IO149PB4F13 (io)
part C pins: A2 ~{TRST} (in), A3 VCCDA (power), A11 VCCDA (power), AA14 VCCPLF (power), AB4 VCCA (power), AB5 VCCDA (power), AB13 VCCPLH (power), AB14 VCOMPLF (power), AB22 VCCDA (power), AD10 VCCDA (power), AD11 VCCDA (power), AD12 VCOMPLG (power), AD13 VCCDA (power), AD14 PRD (out), AD15 VCOMPLE (power), AD16 VCCDA (power), AD17 VCCDA (power), AF12 VCCPLG (power), AF15 VCCPLE (power), AF24 VCCA (power), B1 VCCDA (power), B3 TDI (in), B11 VCCDA (power), B14 PRB (out), B17 VCCDA (power), C1 VCCA (power), C2 LP (in), C16 VCCDA (power), C26 VCCA (power), D4 TMS (in), D12 VCOMPLA (power), D15 VCOMPLC (power), D24 VCCDA (power), E5 TCK (in), E12 VCCPLA (power), E13 PRA (out), E14 VCCDA (power), E15 VCCPLC (power), E22 VPUMP (power), F13 VCCPLB (power), F14 VCOMPLD (power), G6 TDO (hiz), G8 VCCIB0 (power), G9 VCCIB0 (power), G10 VCCIB0 (power), G13 VCOMPLB (power), G14 VCCPLD (power), G17 VCCIB1 (power), G18 VCCIB1 (power), G19 VCCIB1 (power), H7 VCCIB7 (power), H9 VCCIB0 (power), H10 VCCIB0 (power), H11 VCCIB0 (power), H12 VCCIB0 (power), H13 VCCIB0 (power), H14 VCCIB1 (power), H15 VCCIB1 (power), H16 VCCIB1 (power), H17 VCCIB1 (power), H18 VCCIB1 (power), H20 VCCIB2 (power), J7 VCCIB7 (power), J8 VCCIB7 (power), J10 VCCA (power), J11 VCCA (power), J12 VCCA (power), J13 VCCA (power), J14 VCCA (power), J15 VCCA (power), J16 VCCA (power), J17 VCCA (power), J19 VCCIB2 (power), J20 VCCIB2 (power), K7 VCCIB7 (power), K8 VCCIB7 (power), K9 VCCA (power), K18 VCCA (power), K19 VCCIB2 (power), K20 VCCIB2 (power), L8 VCCIB7 (power), L9 VCCA (power), L18 VCCA (power), L19 VCCIB2 (power), M8 VCCIB7 (power), M9 VCCA (power), M18 VCCA (power), M19 VCCIB2 (power), N8 VCCIB7 (power), N9 VCCA (power), N18 VCCA (power), N19 VCCIB2 (power), P2 VCCDA (power), P8 VCCIB6 (power), P9 VCCA (power), P18 VCCA (power), P19 VCCIB3 (power), P23 VCCDA (power), R8 VCCIB6 (power), R9 VCCA (power), R18 VCCA (power), R19 VCCIB3 (power), T8 VCCIB6 (power), T9 VCCA (power), T18 VCCA (power), T19 VCCIB3 (power), U7 VCCIB6 (power), U8 VCCIB6 (power), U9 VCCA (power), U18 VCCA (power), U19 VCCIB3 (power), U20 VCCIB3 (power), V7 VCCIB6 (power), V8 VCCIB6 (power), V10 VCCA (power), V11 VCCA (power), V12 VCCA (power), V13 VCCA (power), V14 VCCA (power), V15 VCCA (power), V16 VCCA (power), V17 VCCA (power), V19 VCCIB3 (power), V20 VCCIB3 (power), W7 VCCIB6 (power), W9 VCCIB5 (power), W10 VCCIB5 (power), W11 VCCIB5 (power), W12 VCCIB5 (power), W13 VCCIB5 (power), W14 VCCIB4 (power), W15 VCCIB4 (power), W16 VCCIB4 (power), W17 VCCIB4 (power), W18 VCCIB4 (power), W20 VCCIB3 (power), Y8 VCCIB5 (power), Y9 VCCIB5 (power), Y10 VCCIB5 (power), Y13 VCOMPLH (power), Y14 PRC (out), Y17 VCCIB4 (power), Y18 VCCIB4 (power), Y19 VCCIB4 (power)
part D pins: A1 GND (power), A8 GND (power), A13 GND (power), A14 GND (power), A19 GND (power), A26 GND (power), AC4 GND (power), AC23 GND (power), AD3 GND (power), AD24 GND (power), AE2 GND (power), AE25 GND (power), AF1 GND (power), AF8 GND (power), AF13 GND (power), AF14 GND (power), AF19 GND (power), AF26 GND (power), B2 GND (power), B25 GND (power), B26 GND (power), C3 GND (power), C24 GND (power), G7 GND (power), G20 GND (power), H1 GND (power), H8 GND (power), H19 GND (power), H26 GND (power), J9 GND (power), J18 GND (power), K10 GND (power), K11 GND (power), K12 GND (power), K13 GND (power), K14 GND (power), K15 GND (power), K16 GND (power), K17 GND (power), L10 GND (power), L11 GND (power), L12 GND (power), L13 GND (power), L14 GND (power), L15 GND (power), L16 GND (power), L17 GND (power), M10 GND (power), M11 GND (power), M12 GND (power), M13 GND (power), M14 GND (power), M15 GND (power), M16 GND (power), M17 GND (power), N1 GND (power), N10 GND (power), N11 GND (power), N12 GND (power), N13 GND (power), N14 GND (power), N15 GND (power), N16 GND (power), N17 GND (power), N26 GND (power), P1 GND (power), P10 GND (power), P11 GND (power), P12 GND (power), P13 GND (power), P14 GND (power), P15 GND (power), P16 GND (power), P17 GND (power), P26 GND (power), R10 GND (power), R11 GND (power), R12 GND (power), R13 GND (power), R14 GND (power), R15 GND (power), R16 GND (power), R17 GND (power), T10 GND (power), T11 GND (power), T12 GND (power), T13 GND (power), T14 GND (power), T15 GND (power), T16 GND (power), T17 GND (power), U10 GND (power), U11 GND (power), U12 GND (power), U13 GND (power), U14 GND (power), U15 GND (power), U16 GND (power), U17 GND (power), V9 GND (power), V18 GND (power), W1 GND (power), W8 GND (power), W19 GND (power), W26 GND (power), Y7 GND (power), Y20 GND (power)
part E pins: A25 NC, AC13 NC, AC14 NC, AF2 NC, AF25 NC, D13 NC, D14 NC
part A text: Bank 0; Bank 3; Bank 1; Bank 2
part B text: Bank 4; Bank 7; Bank 5; Bank 6

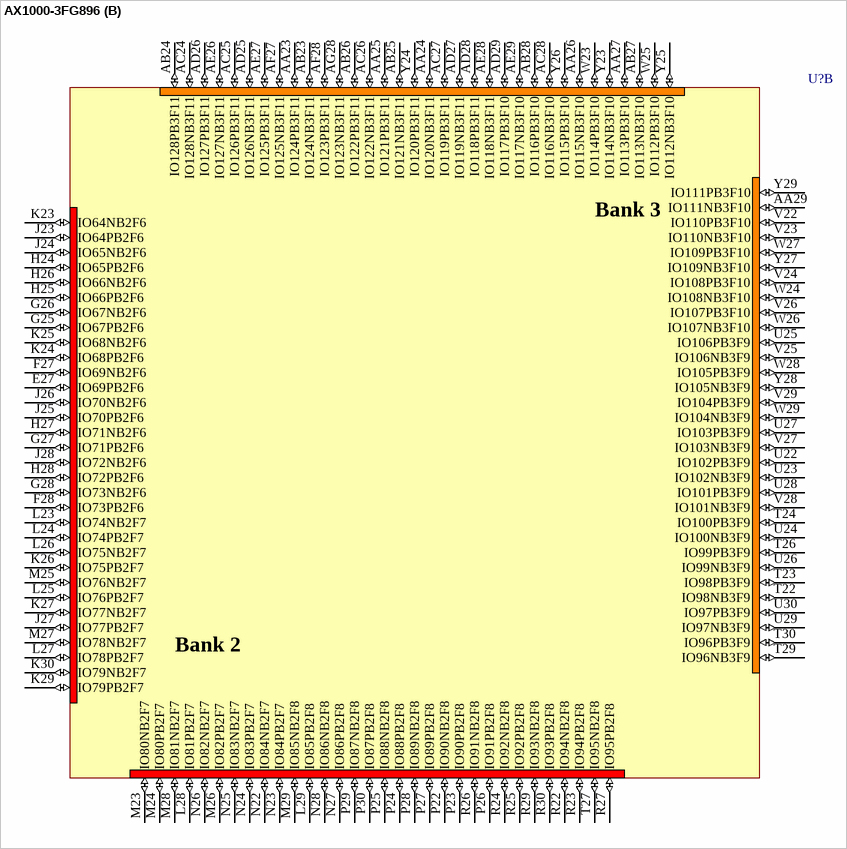
[diagram p295: symbol AX1000-3FG896]

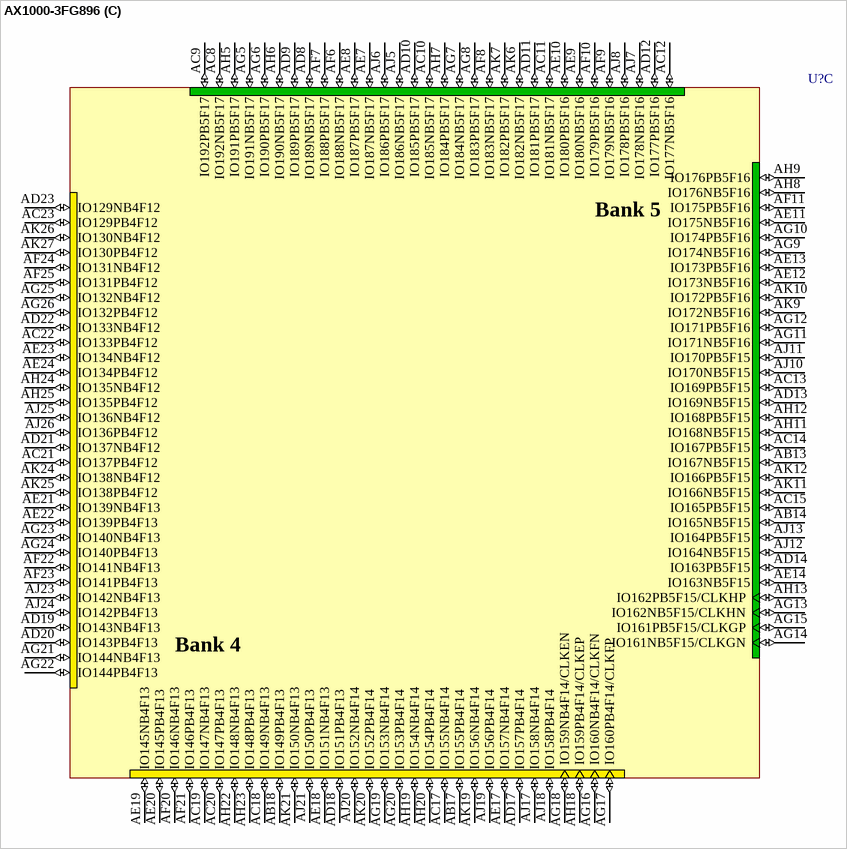
[diagram p296: symbol AX1000-3FG896]

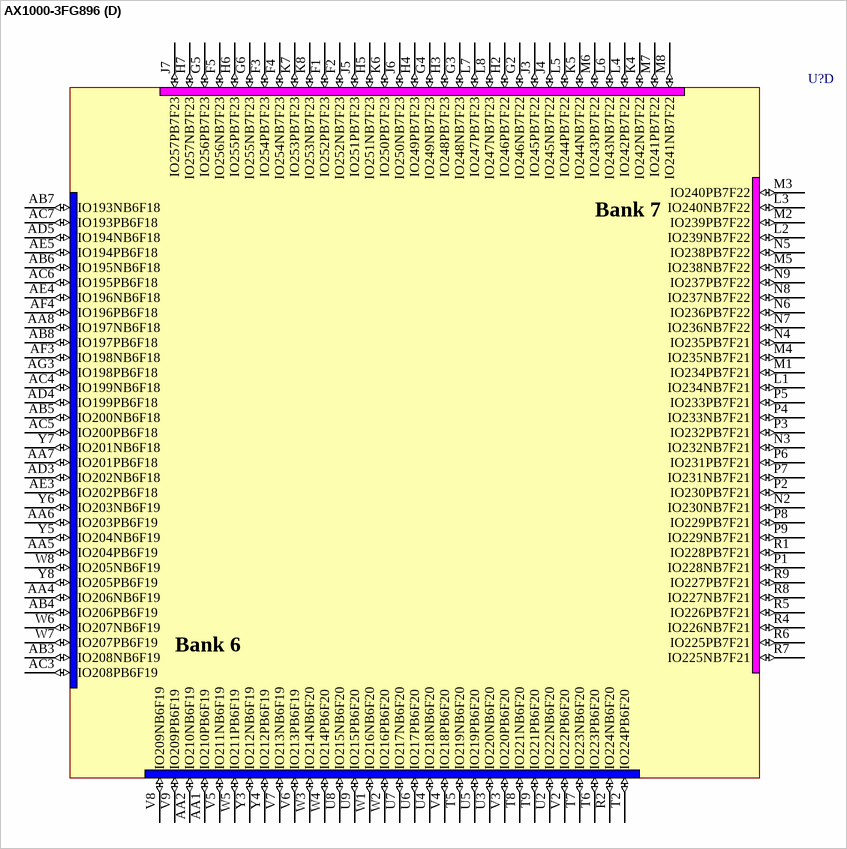
[diagram p297: symbol AX1000-3FG896]

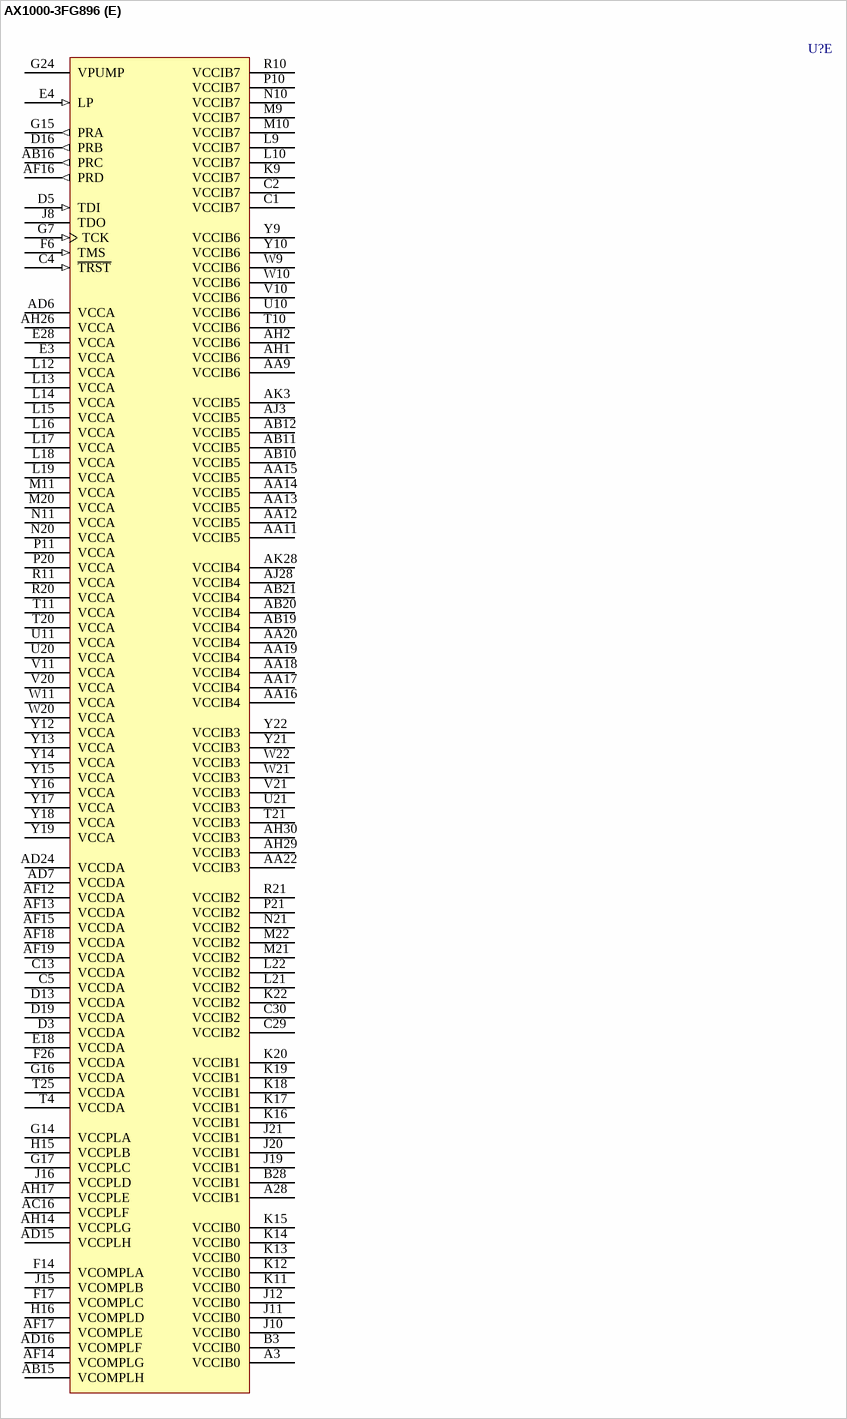
[diagram p298: symbol AX1000-3FG896]

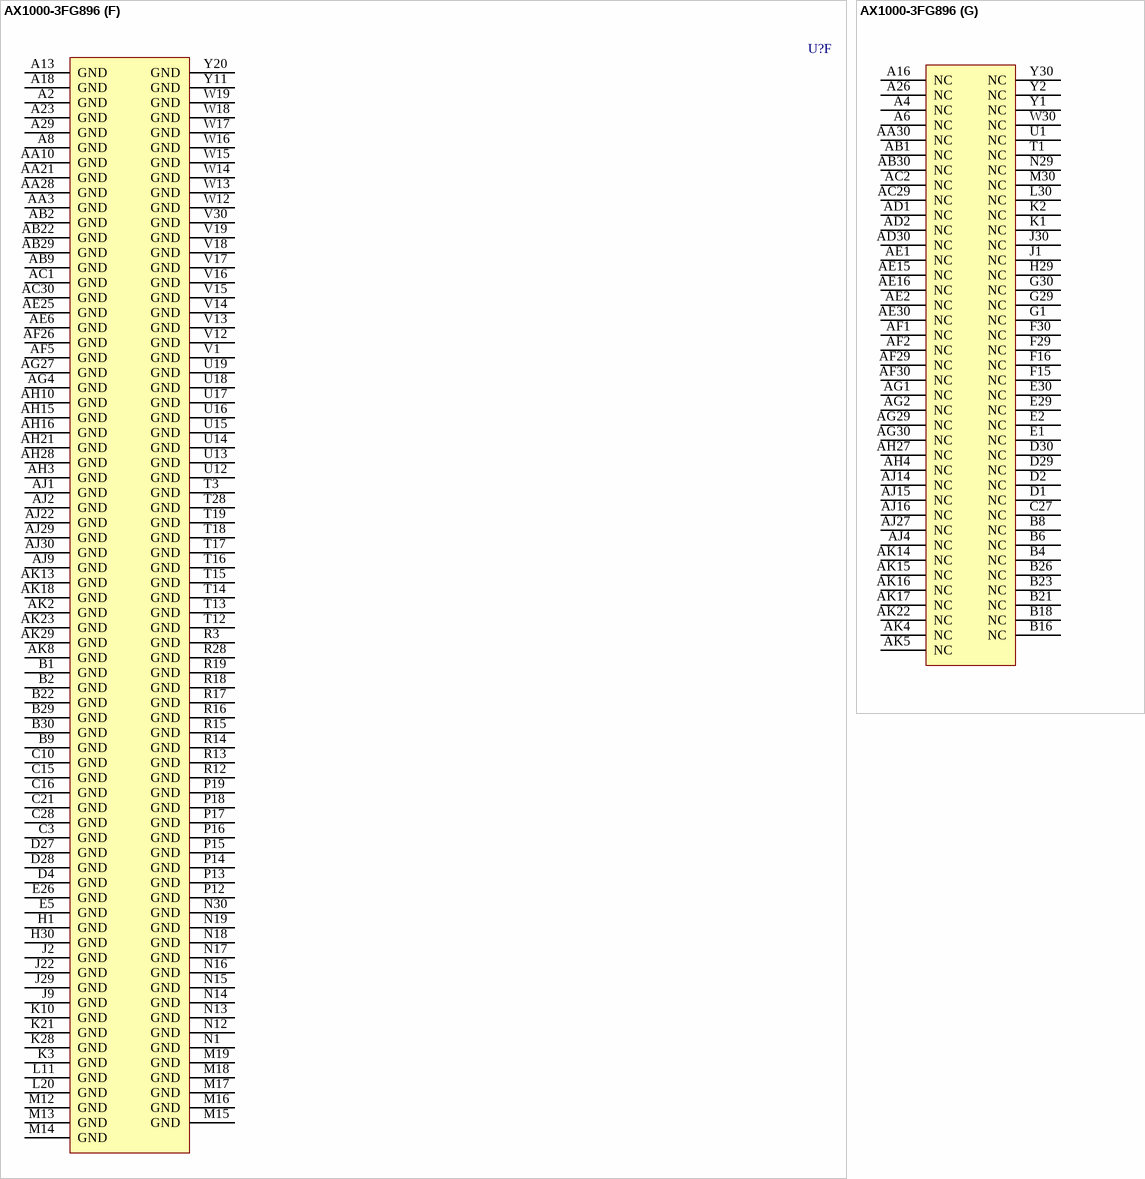
[diagram p299: symbol AX1000-3FG896]

## AX1000-3FG896
designator U?
Axcelerator AX1000 FPGA, 516 I/Os, 896-Pin FBGA, Speed Grade 3, Commercial Grade; ComponentAvailability: -3 speed grade removed in v2.3 datasheet.; Published: 21-May-2003; LatestRevisionDate: 13-Apr-2006; LatestRevisionNote: IPC-7351 Footprint Added.; DatasheetVersion: v2.4, Jan-2005; PackageVersion: ver11.2, Nov-2009; PackageReference: FG896; Publisher: Altium Limited; PackageDescription: 896-Ball Fine Pitch Plastic Ball Grid Array (FG896); Code_JEDEC: MS-034-AAN-1; ComponentLink1Description: Axcelerator Datasheet; ComponentLink1URL: http://www.actel.com/documents/AX_DS.pdf; ComponentLink2Description: Package Mechanical Drawings; ComponentLink2URL: http://www.actel.com/documents/PckgMechDrwngs.pdf; ComponentLink3Description: Axcelerator Documents; ComponentLink3URL: http://www.actel.com/products/axcelerator/docs.aspx; ComponentLink4Description: Actel.com Home; ComponentLink4URL: http://www.actel.com/
footprint FG896 (BGA, 896-Leads, Body 31x31mm, Pitch 1mm)
part A pins: A5 IO01NB0F0 (io), A7 IO09NB0F0 (io), A9 IO15PB0F1 (io), A10 IO15NB0F1 (io), A11 IO23PB0F2 (io), A12 IO23NB0F2 (io), A14 IO27PB0F2 (io), A15 IO29PB0F2 (io), A17 IO34NB1F3 (io), A19 IO37PB1F3 (io), A20 IO39PB1F3 (io), A21 IO43PB1F4 (io), A22 IO43NB1F4 (io), A24 IO47PB1F4 (io), A25 IO47NB1F4 (io), A27 IO61PB1F5 (io), B5 IO01PB0F0 (io), B7 IO09PB0F0 (io), B10 IO17PB0F1 (io), B11 IO17NB0F1 (io), B12 IO25PB0F2 (io), B13 IO25NB0F2 (io), B14 IO27NB0F2 (io), B15 IO29NB0F2 (io), B17 IO34PB1F3 (io), B19 IO37NB1F3 (io), B20 IO39NB1F3 (io), B24 IO53PB1F4 (io), B25 IO53NB1F4 (io), B27 IO61NB1F5 (io), C6 IO05PB0F0 (io), C7 IO05NB0F0 (io), C8 IO11PB0F0 (io), C9 IO11NB0F0 (io), C11 IO19PB0F1 (io), C12 IO19NB0F1 (io), C14 IO30NB0F2/HCLKAN (io), C17 IO33NB1F3/HCLKDN (io), C18 IO35PB1F3 (io), C19 IO40PB1F3 (io), C20 IO40NB1F3 (io), C22 IO46PB1F4 (io), C23 IO49PB1F4 (io), C24 IO49NB1F4 (io), C25 IO57PB1F5 (io), C26 IO59PB1F5 (io), D6 IO00NB0F0 (io), D7 IO04NB0F0 (io), D8 IO07NB0F0 (io), D9 IO13PB0F1 (io), D10 IO13NB0F1 (io), D11 IO18NB0F1 (io), D12 IO21NB0F1 (io), D14 IO30PB0F2/HCLKAP (io), D15 IO31PB0F2/HCLKBP (io), D17 IO33PB1F3/HCLKDP (io), D18 IO35NB1F3 (io), D20 IO45PB1F4 (io), D21 IO45NB1F4 (io), D22 IO46NB1F4 (io), D23 IO54PB1F5 (io), D24 IO54NB1F5 (io), D25 IO57NB1F5 (io), D26 IO59NB1F5 (io), E6 IO00PB0F0 (io), E7 IO04PB0F0 (io), E8 IO07PB0F0 (io), E9 IO08NB0F0 (io), E10 IO12NB0F1 (io), E11 IO18PB0F1 (io), E12 IO21PB0F1 (io), E13 IO26PB0F2 (io), E14 IO26NB0F2 (io), E15 IO31NB0F2/HCLKBN (io), E16 IO32PB1F3/HCLKCP (io), E17 IO32NB1F3/HCLKCN (io), E19 IO41PB1F4 (io), E20 IO41NB1F4 (io), E21 IO51PB1F4 (io), E22 IO52PB1F4 (io), E23 IO55PB1F5 (io), E24 IO58PB1F5 (io), E25 IO62PB1F5 (io), F7 IO03PB0F0 (io), F8 IO03NB0F0 (io), F9 IO08PB0F0 (io), F10 IO12PB0F1 (io), F11 IO14NB0F1 (io), F12 IO20NB0F1 (io), F13 IO24NB0F2 (io), F18 IO42NB1F4 (io), F19 IO44PB1F4 (io), F20 IO44NB1F4 (io), F21 IO51NB1F4 (io), F22 IO52NB1F4 (io), F23 IO55NB1F5 (io), F24 IO58NB1F5 (io), F25 IO62NB1F5 (io), G8 IO02PB0F0 (io), G9 IO02NB0F0 (io), G10 IO10PB0F0 (io), G11 IO14PB0F1 (io), G12 IO20PB0F1 (io), G13 IO24PB0F2 (io), G18 IO42PB1F4 (io), G19 IO48PB1F4 (io), G20 IO50NB1F4 (io), G21 IO56PB1F5 (io), G22 IO60PB1F5 (io), G23 IO60NB1F5 (io), H8 IO06PB0F0 (io), H9 IO06NB0F0 (io), H10 IO10NB0F0 (io), H11 IO16PB0F1 (io), H12 IO16NB0F1 (io), H13 IO22NB0F2 (io), H14 IO28NB0F2 (io), H17 IO36NB1F3 (io), H18 IO38NB1F3 (io), H19 IO48NB1F4 (io), H20 IO50PB1F4 (io), H21 IO56NB1F5 (io), H22 IO63PB1F5 (io), H23 IO63NB1F5 (io), J13 IO22PB0F2 (io), J14 IO28PB0F2 (io), J17 IO36PB1F3 (io), J18 IO38PB1F3 (io)
part B pins: AA23 IO124PB3F11 (io), AA24 IO120NB3F11 (io), AA25 IO121PB3F11 (io), AA26 IO115NB3F10 (io), AA27 IO113PB3F10 (io), AA29 IO111NB3F10 (io), AB23 IO124NB3F11 (io), AB24 IO128PB3F11 (io), AB25 IO121NB3F11 (io), AB26 IO122PB3F11 (io), AB27 IO113NB3F10 (io), AB28 IO116PB3F10 (io), AC24 IO128NB3F11 (io), AC25 IO126PB3F11 (io), AC26 IO122NB3F11 (io), AC27 IO119PB3F11 (io), AC28 IO116NB3F10 (io), AD25 IO126NB3F11 (io), AD26 IO127PB3F11 (io), AD27 IO119NB3F11 (io), AD28 IO118PB3F11 (io), AD29 IO117PB3F10 (io), AE26 IO127NB3F11 (io), AE27 IO125PB3F11 (io), AE28 IO118NB3F11 (io), AE29 IO117NB3F10 (io), AF27 IO125NB3F11 (io), AF28 IO123PB3F11 (io), AG28 IO123NB3F11 (io), E27 IO69PB2F6 (io), F27 IO69NB2F6 (io), F28 IO73PB2F6 (io), G25 IO67PB2F6 (io), G26 IO67NB2F6 (io), G27 IO71PB2F6 (io), G28 IO73NB2F6 (io), H24 IO65PB2F6 (io), H25 IO66PB2F6 (io), H26 IO66NB2F6 (io), H27 IO71NB2F6 (io), H28 IO72PB2F6 (io), J23 IO64PB2F6 (io), J24 IO65NB2F6 (io), J25 IO70PB2F6 (io), J26 IO70NB2F6 (io), J27 IO77PB2F7 (io), J28 IO72NB2F6 (io), K23 IO64NB2F6 (io), K24 IO68PB2F6 (io), K25 IO68NB2F6 (io), K26 IO75PB2F7 (io), K27 IO77NB2F7 (io), K29 IO79PB2F7 (io), K30 IO79NB2F7 (io), L23 IO74NB2F7 (io), L24 IO74PB2F7 (io), L25 IO76PB2F7 (io), L26 IO75NB2F7 (io), L27 IO78PB2F7 (io), L28 IO81PB2F7 (io), L29 IO85PB2F8 (io), M23 IO80NB2F7 (io), M24 IO80PB2F7 (io), M25 IO76NB2F7 (io), M26 IO82PB2F7 (io), M27 IO78NB2F7 (io), M28 IO81NB2F7 (io), M29 IO85NB2F8 (io), N22 IO84NB2F7 (io), N23 IO84PB2F7 (io), N24 IO83PB2F7 (io), N25 IO83NB2F7 (io), N26 IO82NB2F7 (io), N27 IO86PB2F8 (io), N28 IO86NB2F8 (io), P22 IO90NB2F8 (io), P23 IO90PB2F8 (io), P24 IO88PB2F8 (io), P25 IO88NB2F8 (io), P26 IO91PB2F8 (io), P27 IO89PB2F8 (io), P28 IO89NB2F8 (io), P29 IO87NB2F8 (io), P30 IO87PB2F8 (io), R22 IO94NB2F8 (io), R23 IO94PB2F8 (io), R24 IO92NB2F8 (io), R25 IO92PB2F8 (io), R26 IO91NB2F8 (io), R27 IO95PB2F8 (io), R29 IO93NB2F8 (io), R30 IO93PB2F8 (io), T22 IO98NB3F9 (io), T23 IO98PB3F9 (io), T24 IO100PB3F9 (io), T26 IO99PB3F9 (io), T27 IO95NB2F8 (io), T29 IO96NB3F9 (io), T30 IO96PB3F9 (io), U22 IO102PB3F9 (io), U23 IO102NB3F9 (io), U24 IO100NB3F9 (io), U25 IO106PB3F9 (io), U26 IO99NB3F9 (io), U27 IO103PB3F9 (io), U28 IO101PB3F9 (io), U29 IO97NB3F9 (io), U30 IO97PB3F9 (io), V22 IO110PB3F10 (io), V23 IO110NB3F10 (io), V24 IO108PB3F10 (io), V25 IO106NB3F9 (io), V26 IO107PB3F10 (io), V27 IO103NB3F9 (io), V28 IO101NB3F9 (io), V29 IO104PB3F9 (io), W23 IO114PB3F10 (io), W24 IO108NB3F10 (io), W25 IO112PB3F10 (io), W26 IO107NB3F10 (io), W27 IO109PB3F10 (io), W28 IO105PB3F9 (io), W29 IO104NB3F9 (io), Y23 IO114NB3F10 (io), Y24 IO120PB3F11 (io), Y25 IO112NB3F10 (io), Y26 IO115PB3F10 (io), Y27 IO109NB3F10 (io), Y28 IO105NB3F9 (io), Y29 IO111PB3F10 (io)
part C pins: AB13 IO167NB5F15 (io), AB14 IO165NB5F15 (io), AB17 IO155PB4F14 (io), AB18 IO149PB4F13 (io), AC8 IO192NB5F17 (io), AC9 IO192PB5F17 (io), AC10 IO185NB5F17 (io), AC11 IO181NB5F17 (io), AC12 IO177NB5F16 (io), AC13 IO169PB5F15 (io), AC14 IO167PB5F15 (io), AC15 IO165PB5F15 (io), AC17 IO155NB4F14 (io), AC18 IO149NB4F13 (io), AC19 IO147NB4F13 (io), AC20 IO147PB4F13 (io), AC21 IO137PB4F12 (io), AC22 IO133PB4F12 (io), AC23 IO129PB4F12 (io), AD8 IO189NB5F17 (io), AD9 IO189PB5F17 (io), AD10 IO185PB5F17 (io), AD11 IO181PB5F17 (io), AD12 IO177PB5F16 (io), AD13 IO169NB5F15 (io), AD14 IO163PB5F15 (io), AD17 IO157PB4F14 (io), AD18 IO151PB4F13 (io), AD19 IO143NB4F13 (io), AD20 IO143PB4F13 (io), AD21 IO137NB4F12 (io), AD22 IO133NB4F12 (io), AD23 IO129NB4F12 (io), AE7 IO187NB5F17 (io), AE8 IO187PB5F17 (io), AE9 IO180NB5F16 (io), AE10 IO180PB5F16 (io), AE11 IO175NB5F16 (io), AE12 IO173NB5F16 (io), AE13 IO173PB5F16 (io), AE14 IO163NB5F15 (io), AE17 IO157NB4F14 (io), AE18 IO151NB4F13 (io), AE19 IO145NB4F13 (io), AE20 IO145PB4F13 (io), AE21 IO139NB4F13 (io), AE22 IO139PB4F13 (io), AE23 IO134NB4F12 (io), AE24 IO134PB4F12 (io), AF6 IO188NB5F17 (io), AF7 IO188PB5F17 (io), AF8 IO183NB5F17 (io), AF9 IO179NB5F16 (io), AF10 IO179PB5F16 (io), AF11 IO175PB5F16 (io), AF20 IO146NB4F13 (io), AF21 IO146PB4F13 (io), AF22 IO141NB4F13 (io), AF23 IO141PB4F13 (io), AF24 IO131NB4F12 (io), AF25 IO131PB4F12 (io), AG5 IO191NB5F17 (io), AG6 IO190PB5F17 (io), AG7 IO184NB5F17 (io), AG8 IO183PB5F17 (io), AG9 IO174NB5F16 (io), AG10 IO174PB5F16 (io), AG11 IO171NB5F16 (io), AG12 IO171PB5F16 (io), AG13 IO162NB5F15/CLKHN (io), AG14 IO161NB5F15/CLKGN (io), AG15 IO161PB5F15/CLKGP (io), AG16 IO160NB4F14/CLKFN (io), AG17 IO160PB4F14/CLKFP (io), AG18 IO159NB4F14/CLKEN (io), AG19 IO153NB4F14 (io), AG20 IO153PB4F14 (io), AG21 IO144NB4F13 (io), AG22 IO144PB4F13 (io), AG23 IO140NB4F13 (io), AG24 IO140PB4F13 (io), AG25 IO132NB4F12 (io), AG26 IO132PB4F12 (io), AH5 IO191PB5F17 (io), AH6 IO190NB5F17 (io), AH7 IO184PB5F17 (io), AH8 IO176NB5F16 (io), AH9 IO176PB5F16 (io), AH11 IO168NB5F15 (io), AH12 IO168PB5F15 (io), AH13 IO162PB5F15/CLKHP (io), AH18 IO159PB4F14/CLKEP (io), AH19 IO154NB4F14 (io), AH20 IO154PB4F14 (io), AH22 IO148NB4F13 (io), AH23 IO148PB4F13 (io), AH24 IO135NB4F12 (io), AH25 IO135PB4F12 (io), AJ5 IO186NB5F17 (io), AJ6 IO186PB5F17 (io), AJ7 IO178NB5F16 (io), AJ8 IO178PB5F16 (io), AJ10 IO170NB5F15 (io), AJ11 IO170PB5F15 (io), AJ12 IO164NB5F15 (io), AJ13 IO164PB5F15 (io), AJ17 IO158NB4F14 (io), AJ18 IO158PB4F14 (io), AJ19 IO156PB4F14 (io), AJ20 IO152NB4F14 (io), AJ21 IO150PB4F13 (io), AJ23 IO142NB4F13 (io), AJ24 IO142PB4F13 (io), AJ25 IO136NB4F12 (io), AJ26 IO136PB4F12 (io), AK6 IO182NB5F17 (io), AK7 IO182PB5F17 (io), AK9 IO172NB5F16 (io), AK10 IO172PB5F16 (io), AK11 IO166NB5F15 (io), AK12 IO166PB5F15 (io), AK19 IO156NB4F14 (io), AK20 IO152PB4F14 (io), AK21 IO150NB4F13 (io), AK24 IO138NB4F12 (io), AK25 IO138PB4F12 (io), AK26 IO130NB4F12 (io), AK27 IO130PB4F12 (io)
part D pins: AA1 IO210PB6F19 (io), AA2 IO210NB6F19 (io), AA4 IO206NB6F19 (io), AA5 IO204PB6F19 (io), AA6 IO203PB6F19 (io), AA7 IO201PB6F18 (io), AA8 IO197NB6F18 (io), AB3 IO208NB6F19 (io), AB4 IO206PB6F19 (io), AB5 IO200NB6F18 (io), AB6 IO195NB6F18 (io), AB7 IO193NB6F18 (io), AB8 IO197PB6F18 (io), AC3 IO208PB6F19 (io), AC4 IO199NB6F18 (io), AC5 IO200PB6F18 (io), AC6 IO195PB6F18 (io), AC7 IO193PB6F18 (io), AD3 IO202NB6F18 (io), AD4 IO199PB6F18 (io), AD5 IO194NB6F18 (io), AE3 IO202PB6F18 (io), AE4 IO196NB6F18 (io), AE5 IO194PB6F18 (io), AF3 IO198NB6F18 (io), AF4 IO196PB6F18 (io), AG3 IO198PB6F18 (io), F1 IO252PB7F23 (io), F2 IO252NB7F23 (io), F3 IO254PB7F23 (io), F4 IO254NB7F23 (io), F5 IO256NB7F23 (io), G2 IO246NB7F22 (io), G3 IO248NB7F23 (io), G4 IO249NB7F23 (io), G5 IO256PB7F23 (io), G6 IO255NB7F23 (io), H2 IO246PB7F22 (io), H3 IO248PB7F23 (io), H4 IO249PB7F23 (io), H5 IO251NB7F23 (io), H6 IO255PB7F23 (io), H7 IO257NB7F23 (io), J3 IO245PB7F22 (io), J4 IO245NB7F22 (io), J5 IO251PB7F23 (io), J6 IO250NB7F23 (io), J7 IO257PB7F23 (io), K4 IO242NB7F22 (io), K5 IO244NB7F22 (io), K6 IO250PB7F23 (io), K7 IO253PB7F23 (io), K8 IO253NB7F23 (io), L1 IO234NB7F21 (io), L2 IO239NB7F22 (io), L3 IO240NB7F22 (io), L4 IO242PB7F22 (io), L5 IO244PB7F22 (io), L6 IO243NB7F22 (io), L7 IO247PB7F23 (io), L8 IO247NB7F23 (io), M1 IO234PB7F21 (io), M2 IO239PB7F22 (io), M3 IO240PB7F22 (io), M4 IO235NB7F21 (io), M5 IO238NB7F22 (io), M6 IO243PB7F22 (io), M7 IO241PB7F22 (io), M8 IO241NB7F22 (io), N2 IO230NB7F21 (io), N3 IO232NB7F21 (io), N4 IO235PB7F21 (io), N5 IO238PB7F22 (io), N6 IO236PB7F22 (io), N7 IO236NB7F22 (io), N8 IO237NB7F22 (io), N9 IO237PB7F22 (io), P1 IO228NB7F21 (io), P2 IO230PB7F21 (io), P3 IO232PB7F21 (io), P4 IO233NB7F21 (io), P5 IO233PB7F21 (io), P6 IO231PB7F21 (io), P7 IO231NB7F21 (io), P8 IO229PB7F21 (io), P9 IO229NB7F21 (io), R1 IO228PB7F21 (io), R2 IO224NB6F20 (io), R4 IO226NB7F21 (io), R5 IO226PB7F21 (io), R6 IO225PB7F21 (io), R7 IO225NB7F21 (io), R8 IO227NB7F21 (io), R9 IO227PB7F21 (io), T2 IO224PB6F20 (io), T5 IO219NB6F20 (io), T6 IO223PB6F20 (io), T7 IO223NB6F20 (io), T8 IO221NB6F20 (io), T9 IO221PB6F20 (io), U2 IO222NB6F20 (io), U3 IO220NB6F20 (io), U4 IO218NB6F20 (io), U5 IO219PB6F20 (io), U6 IO217PB6F20 (io), U7 IO217NB6F20 (io), U8 IO215NB6F20 (io), U9 IO215PB6F20 (io), V2 IO222PB6F20 (io), V3 IO220PB6F20 (io), V4 IO218PB6F20 (io), V5 IO211NB6F19 (io), V6 IO213PB6F19 (io), V7 IO213NB6F19 (io), V8 IO209NB6F19 (io), V9 IO209PB6F19 (io), W1 IO216NB6F20 (io), W2 IO216PB6F20 (io), W3 IO214NB6F20 (io), W4 IO214PB6F20 (io), W5 IO211PB6F19 (io), W6 IO207NB6F19 (io), W7 IO207PB6F19 (io), W8 IO205NB6F19 (io), Y3 IO212NB6F19 (io), Y4 IO212PB6F19 (io), Y5 IO204NB6F19 (io), Y6 IO203NB6F19 (io), Y7 IO201NB6F18 (io), Y8 IO205PB6F19 (io)
part E pins: A3 VCCIB0 (power), A28 VCCIB1 (power), AA9 VCCIB6 (power), AA11 VCCIB5 (power), AA12 VCCIB5 (power), AA13 VCCIB5 (power), AA14 VCCIB5 (power), AA15 VCCIB5 (power), AA16 VCCIB4 (power), AA17 VCCIB4 (power), AA18 VCCIB4 (power), AA19 VCCIB4 (power), AA20 VCCIB4 (power), AA22 VCCIB3 (power), AB10 VCCIB5 (power), AB11 VCCIB5 (power), AB12 VCCIB5 (power), AB15 VCOMPLH (power), AB16 PRC (out), AB19 VCCIB4 (power), AB20 VCCIB4 (power), AB21 VCCIB4 (power), AC16 VCCPLF (power), AD6 VCCA (power), AD7 VCCDA (power), AD15 VCCPLH (power), AD16 VCOMPLF (power), AD24 VCCDA (power), AF12 VCCDA (power), AF13 VCCDA (power), AF14 VCOMPLG (power), AF15 VCCDA (power), AF16 PRD (out), AF17 VCOMPLE (power), AF18 VCCDA (power), AF19 VCCDA (power), AH1 VCCIB6 (power), AH2 VCCIB6 (power), AH14 VCCPLG (power), AH17 VCCPLE (power), AH26 VCCA (power), AH29 VCCIB3 (power), AH30 VCCIB3 (power), AJ3 VCCIB5 (power), AJ28 VCCIB4 (power), AK3 VCCIB5 (power), AK28 VCCIB4 (power), B3 VCCIB0 (power), B28 VCCIB1 (power), C1 VCCIB7 (power), C2 VCCIB7 (power), C4 ~{TRST} (in), C5 VCCDA (power), C13 VCCDA (power), C29 VCCIB2 (power), C30 VCCIB2 (power), D3 VCCDA (power), D5 TDI (in), D13 VCCDA (power), D16 PRB (out), D19 VCCDA (power), E3 VCCA (power), E4 LP (in), E18 VCCDA (power), E28 VCCA (power), F6 TMS (in), F14 VCOMPLA (power), F17 VCOMPLC (power), F26 VCCDA (power), G7 TCK (in), G14 VCCPLA (power), G15 PRA (out), G16 VCCDA (power), G17 VCCPLC (power), G24 VPUMP (power), H15 VCCPLB (power), H16 VCOMPLD (power), J8 TDO (hiz), J10 VCCIB0 (power), J11 VCCIB0 (power), J12 VCCIB0 (power), J15 VCOMPLB (power), J16 VCCPLD (power), J19 VCCIB1 (power), J20 VCCIB1 (power), J21 VCCIB1 (power), K9 VCCIB7 (power), K11 VCCIB0 (power), K12 VCCIB0 (power), K13 VCCIB0 (power), K14 VCCIB0 (power), K15 VCCIB0 (power), K16 VCCIB1 (power), K17 VCCIB1 (power), K18 VCCIB1 (power), K19 VCCIB1 (power), K20 VCCIB1 (power), K22 VCCIB2 (power), L9 VCCIB7 (power), L10 VCCIB7 (power), L12 VCCA (power), L13 VCCA (power), L14 VCCA (power), L15 VCCA (power), L16 VCCA (power), L17 VCCA (power), L18 VCCA (power), L19 VCCA (power), L21 VCCIB2 (power), L22 VCCIB2 (power), M9 VCCIB7 (power), M10 VCCIB7 (power), M11 VCCA (power), M20 VCCA (power), M21 VCCIB2 (power), M22 VCCIB2 (power), N10 VCCIB7 (power), N11 VCCA (power), N20 VCCA (power), N21 VCCIB2 (power), P10 VCCIB7 (power), P11 VCCA (power), P20 VCCA (power), P21 VCCIB2 (power), R10 VCCIB7 (power), R11 VCCA (power), R20 VCCA (power), R21 VCCIB2 (power), T4 VCCDA (power), T10 VCCIB6 (power), T11 VCCA (power), T20 VCCA (power), T21 VCCIB3 (power), T25 VCCDA (power), U10 VCCIB6 (power), U11 VCCA (power), U20 VCCA (power), U21 VCCIB3 (power), V10 VCCIB6 (power), V11 VCCA (power), V20 VCCA (power), V21 VCCIB3 (power), W9 VCCIB6 (power), W10 VCCIB6 (power), W11 VCCA (power), W20 VCCA (power), W21 VCCIB3 (power), W22 VCCIB3 (power), Y9 VCCIB6 (power), Y10 VCCIB6 (power), Y12 VCCA (power), Y13 VCCA (power), Y14 VCCA (power), Y15 VCCA (power), Y16 VCCA (power), Y17 VCCA (power), Y18 VCCA (power), Y19 VCCA (power), Y21 VCCIB3 (power), Y22 VCCIB3 (power)
part F pins: A2 GND (power), A8 GND (power), A13 GND (power), A18 GND (power), A23 GND (power), A29 GND (power), AA3 GND (power), AA10 GND (power), AA21 GND (power), AA28 GND (power), AB2 GND (power), AB9 GND (power), AB22 GND (power), AB29 GND (power), AC1 GND (power), AC30 GND (power), AE6 GND (power), AE25 GND (power), AF5 GND (power), AF26 GND (power), AG4 GND (power), AG27 GND (power), AH3 GND (power), AH10 GND (power), AH15 GND (power), AH16 GND (power), AH21 GND (power), AH28 GND (power), AJ1 GND (power), AJ2 GND (power), AJ9 GND (power), AJ22 GND (power), AJ29 GND (power), AJ30 GND (power), AK2 GND (power), AK8 GND (power), AK13 GND (power), AK18 GND (power), AK23 GND (power), AK29 GND (power), B1 GND (power), B2 GND (power), B9 GND (power), B22 GND (power), B29 GND (power), B30 GND (power), C3 GND (power), C10 GND (power), C15 GND (power), C16 GND (power), C21 GND (power), C28 GND (power), D4 GND (power), D27 GND (power), D28 GND (power), E5 GND (power), E26 GND (power), H1 GND (power), H30 GND (power), J2 GND (power), J9 GND (power), J22 GND (power), J29 GND (power), K3 GND (power), K10 GND (power), K21 GND (power), K28 GND (power), L11 GND (power), L20 GND (power), M12 GND (power), M13 GND (power), M14 GND (power), M15 GND (power), M16 GND (power), M17 GND (power), M18 GND (power), M19 GND (power), N1 GND (power), N12 GND (power), N13 GND (power), N14 GND (power), N15 GND (power), N16 GND (power), N17 GND (power), N18 GND (power), N19 GND (power), N30 GND (power), P12 GND (power), P13 GND (power), P14 GND (power), P15 GND (power), P16 GND (power), P17 GND (power), P18 GND (power), P19 GND (power), R3 GND (power), R12 GND (power), R13 GND (power), R14 GND (power), R15 GND (power), R16 GND (power), R17 GND (power), R18 GND (power), R19 GND (power), R28 GND (power), T3 GND (power), T12 GND (power), T13 GND (power), T14 GND (power), T15 GND (power), T16 GND (power), T17 GND (power), T18 GND (power), T19 GND (power), T28 GND (power), U12 GND (power), U13 GND (power), U14 GND (power), U15 GND (power), U16 GND (power), U17 GND (power), U18 GND (power), U19 GND (power), V1 GND (power), V12 GND (power), V13 GND (power), V14 GND (power), V15 GND (power), V16 GND (power), V17 GND (power), V18 GND (power), V19 GND (power), V30 GND (power), W12 GND (power), W13 GND (power), W14 GND (power), W15 GND (power), W16 GND (power), W17 GND (power), W18 GND (power), W19 GND (power), Y11 GND (power), Y20 GND (power)
part G pins: A4 NC, A6 NC, A16 NC, A26 NC, AA30 NC, AB1 NC, AB30 NC, AC2 NC, AC29 NC, AD1 NC, AD2 NC, AD30 NC, AE1 NC, AE2 NC, AE15 NC, AE16 NC, AE30 NC, AF1 NC, AF2 NC, AF29 NC, AF30 NC, AG1 NC, AG2 NC, AG29 NC, AG30 NC, AH4 NC, AH27 NC, AJ4 NC, AJ14 NC, AJ15 NC, AJ16 NC, AJ27 NC, AK4 NC, AK5 NC, AK14 NC, AK15 NC, AK16 NC, AK17 NC, AK22 NC, B4 NC, B6 NC, B8 NC, B16 NC, B18 NC, B21 NC, B23 NC, B26 NC, C27 NC, D1 NC, D2 NC, D29 NC, D30 NC, E1 NC, E2 NC, E29 NC, E30 NC, F15 NC, F16 NC, F29 NC, F30 NC, G1 NC, G29 NC, G30 NC, H29 NC, J1 NC, J30 NC, K1 NC, K2 NC, L30 NC, M30 NC, N29 NC, T1 NC, U1 NC, W30 NC, Y1 NC, Y2 NC, Y30 NC
part A text: Bank 1; Bank 0
part B text: Bank 3; Bank 2
part C text: Bank 5; Bank 4
part D text: Bank 7; Bank 6

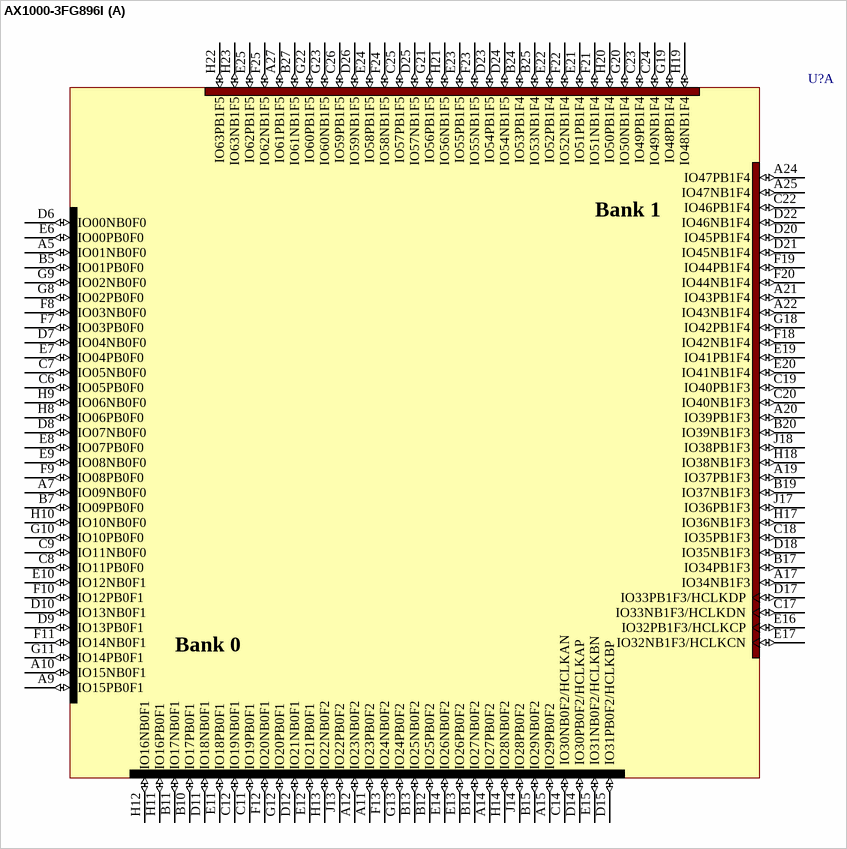
[diagram p300: symbol AX1000-3FG896I]

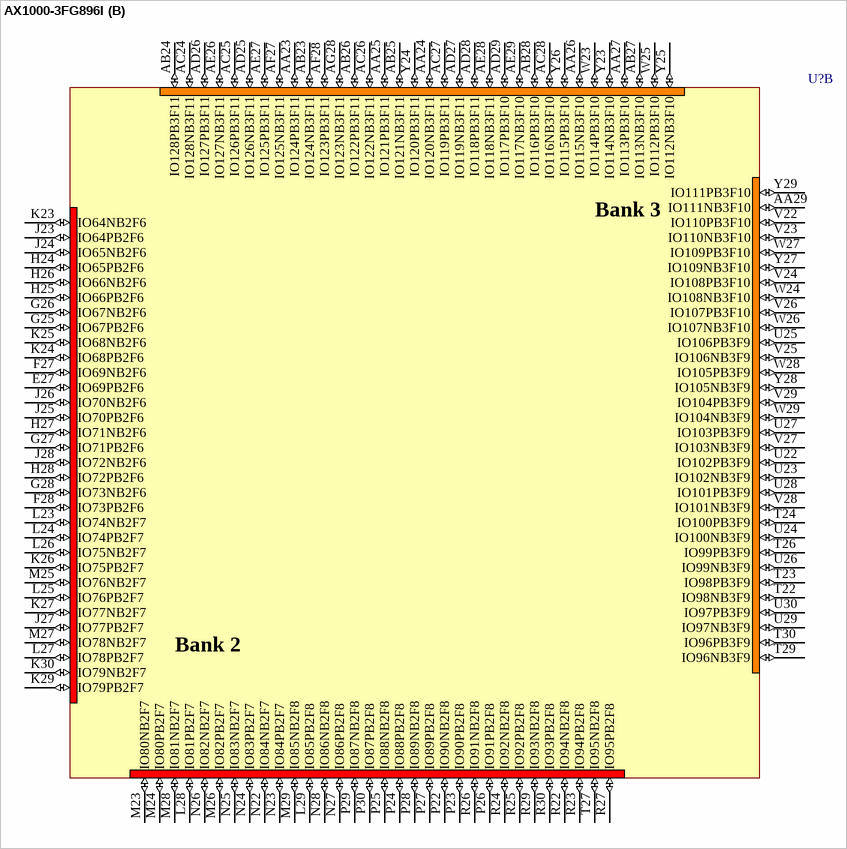
[diagram p301: symbol AX1000-3FG896I]

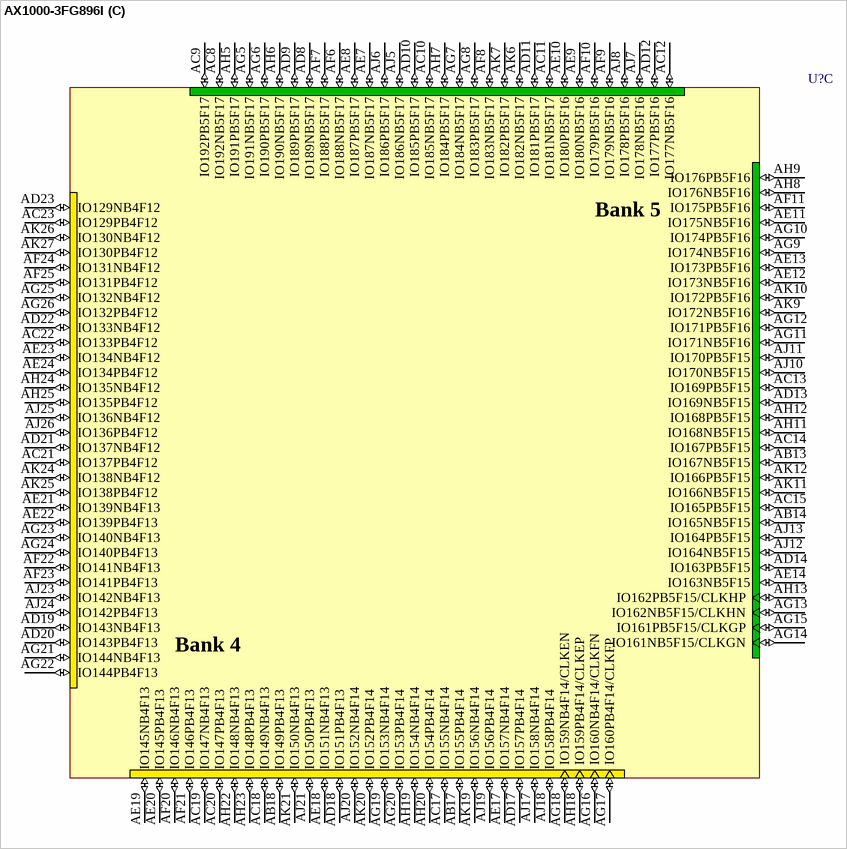
[diagram p302: symbol AX1000-3FG896I]

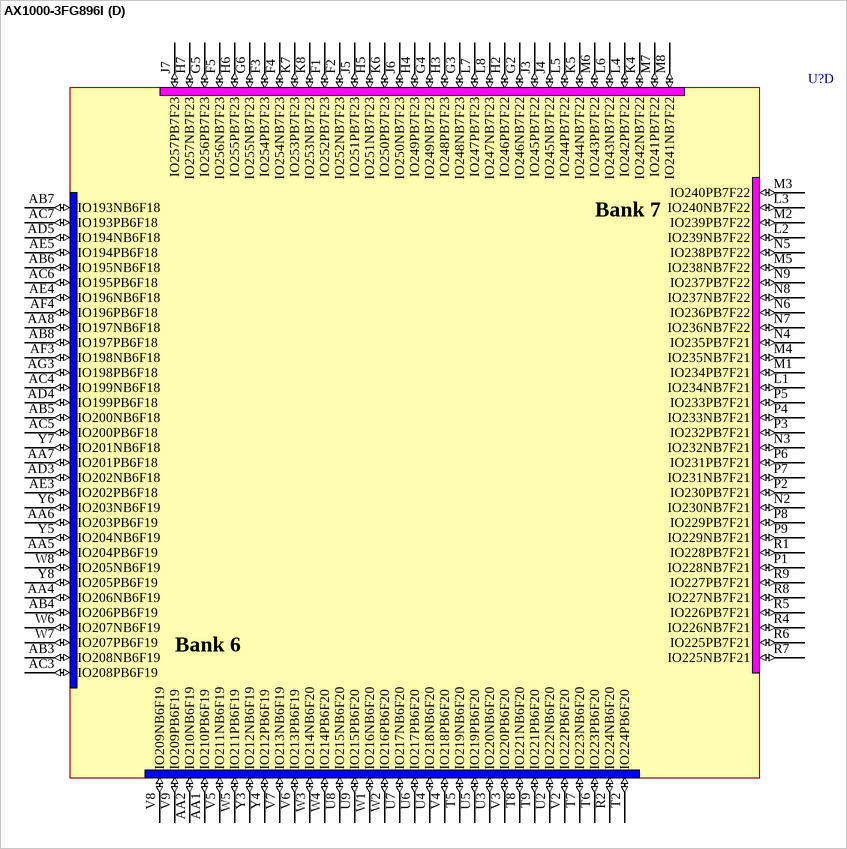
[diagram p303: symbol AX1000-3FG896I]

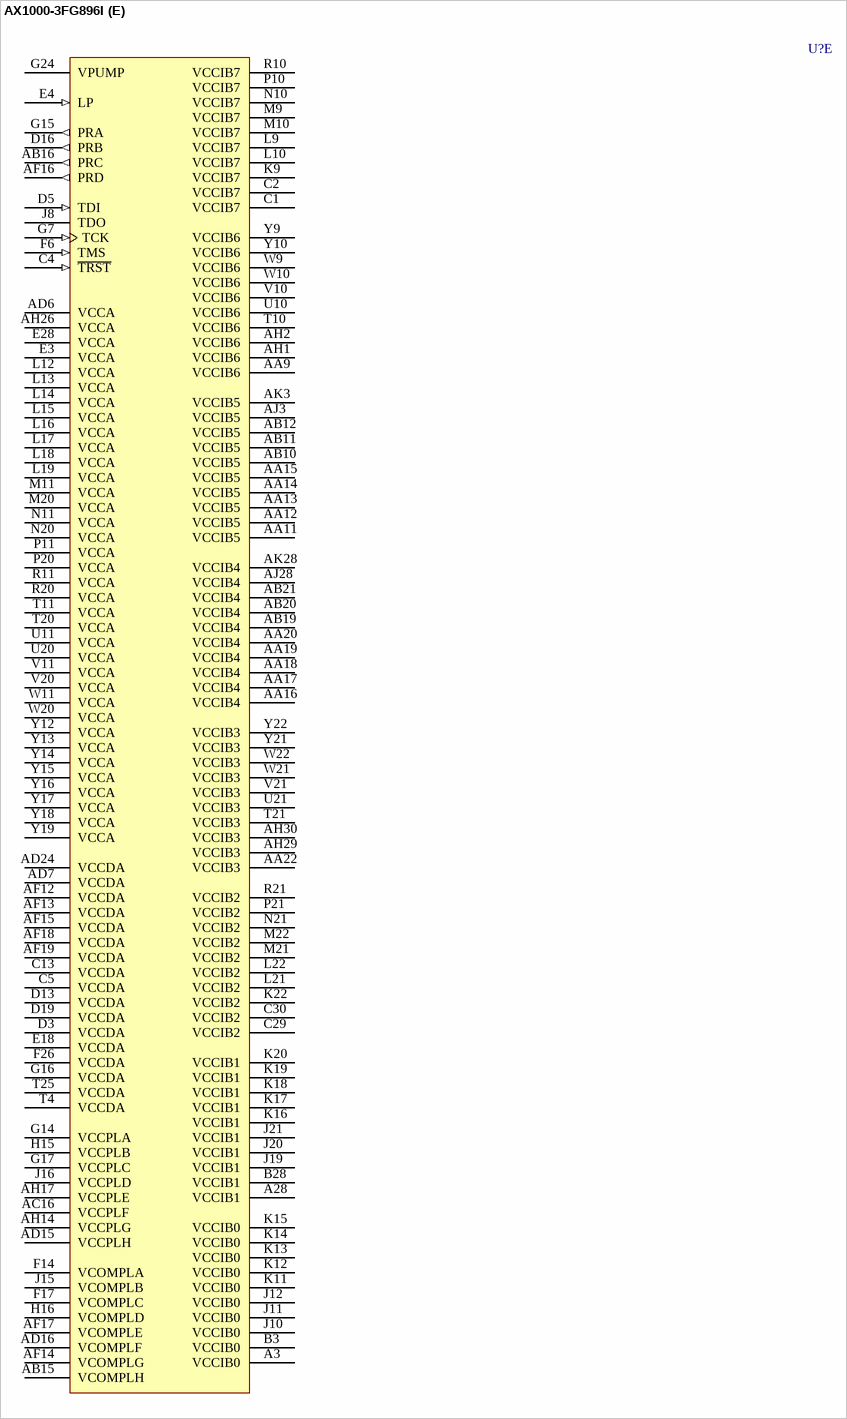
[diagram p304: symbol AX1000-3FG896I]

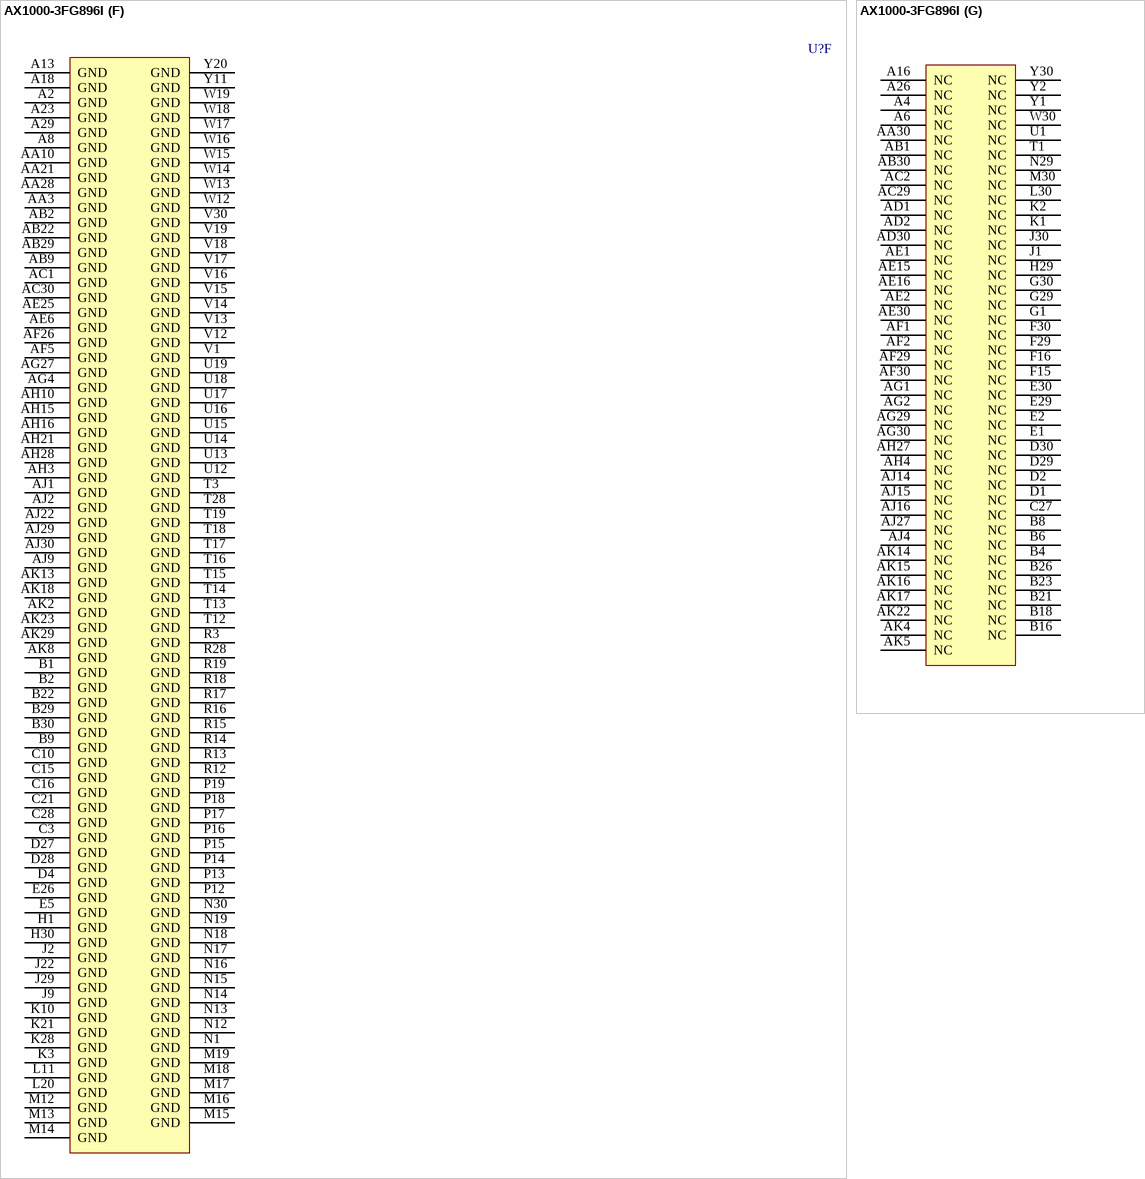
[diagram p305: symbol AX1000-3FG896I]